# Altium schematic symbol library components.SchLib: 244 symbols (part 1 of 3)
Pins are listed as number, name and electrical type; pins without a type are passive.

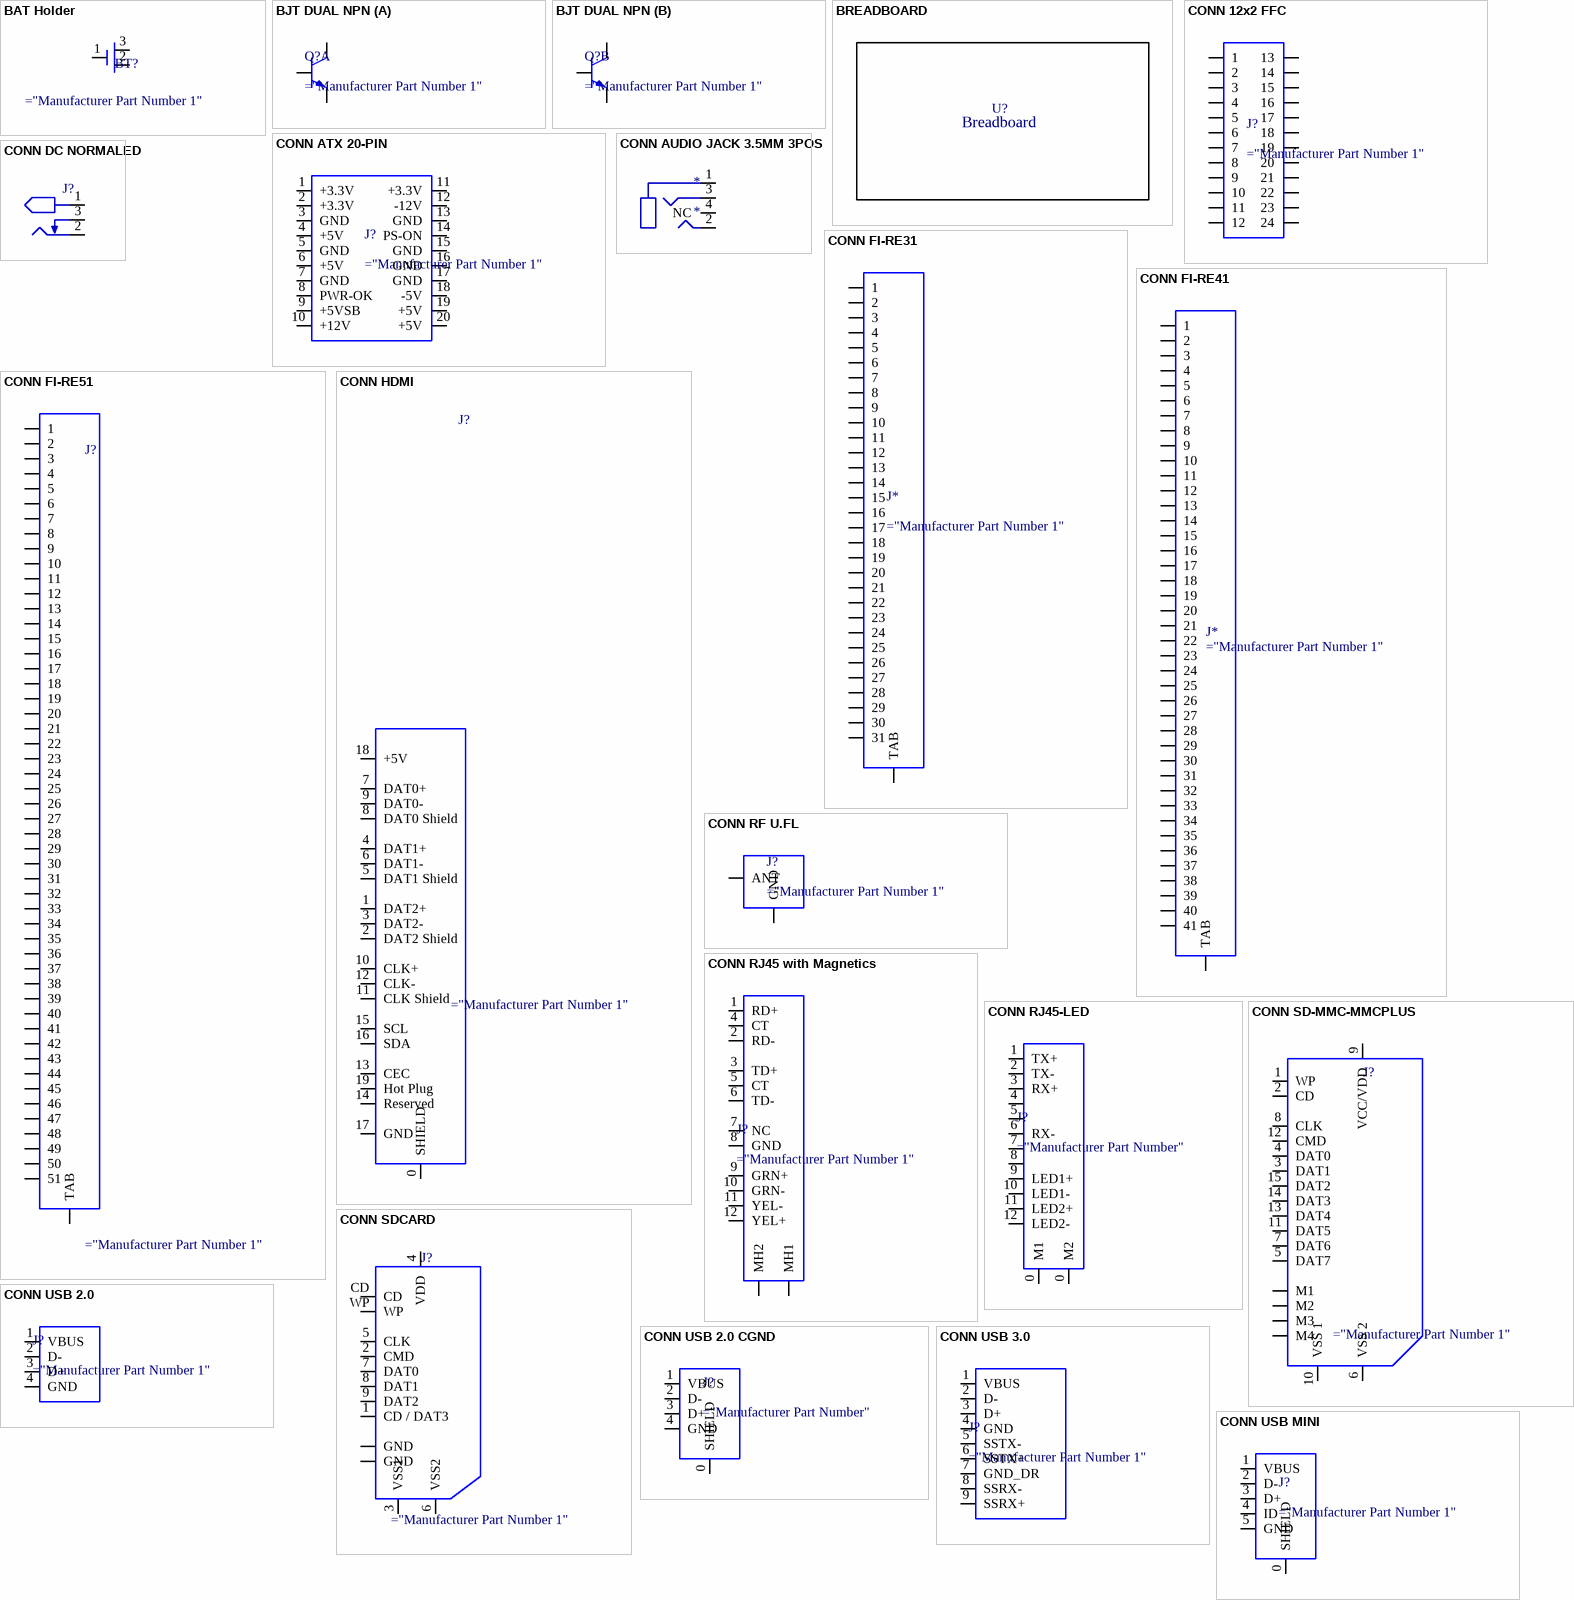
[diagram p0: symbols BAT Holder to CONN USB MINI]

## BAT Holder
designator BT?
20mm Coin Cell Battery Holder, LINX BAT-HLD-001
pins: 1 -, 2 +, 3 +

## BJT DUAL NPN
designator Q?
Dual NPN
part A pins: 3 C1, 4 E1, 5 B1
part B pins: 1 E2, 2 B2, 6 C2

## BREADBOARD
designator U?
6x6 2.54mm Breadboard
pins: 0 hidden
text: Breadboard

## CONN 12x2 FFC
designator J?
12x2 FFC Connector
pins: 1, 2, 3, 4, 5, 6, 7, 8, 9, 10, 11, 12, 13, 14, 15, 16, 17, 18, 19, 20, 21, 22, 23, 24

## CONN ATX 20-PIN
designator J?
ATX 20-Pin Connector, Board-Side
pins: 1 +3.3V (power), 2 +3.3V (power), 3 GND (power), 4 +5V (power), 5 GND (power), 6 +5V (power), 7 GND (power), 8 PWR-OK, 9 +5VSB (power), 10 +12V (power), 11 +3.3V (power), 12 -12V (power), 13 GND (power), 14 PS-ON, 15 GND (power), 16 GND (power), 17 GND (power), 18 -5V (power), 19 +5V (power), 20 +5V (power)
1 alternate drawing of the same symbol

## CONN AUDIO JACK 3.5MM 3POS
designator *
Female Socket, 3 Pos, Black Housing
pins: 1 Sleeve, 2 Tip, 3 Ring, 4 NC

## CONN DC NORMALED
designator J?
DC Barrel Jack, normaled
pins: 1, 2, 3

## CONN FI-RE31
designator J*
JAE FI-R 31pin FFC Connector
pins: 0 TAB, 1, 2, 3, 4, 5, 6, 7, 8, 9, 10, 11, 12, 13, 14, 15, 16, 17, 18, 19, 20, 21, 22, 23, 24, 25, 26, 27, 28, 29, 30, 31

## CONN FI-RE41
designator J*
JAE FI-R 41pin FFC Connector
pins: 0 TAB, 1, 2, 3, 4, 5, 6, 7, 8, 9, 10, 11, 12, 13, 14, 15, 16, 17, 18, 19, 20, 21, 22, 23, 24, 25, 26, 27, 28, 29, 30, 31, 32, 33, 34, 35, 36, 37, 38, 39, 40, 41

## CONN FI-RE51
designator J?
JAE FI-R 51pin FFC Connector
pins: 0 TAB, 1, 2, 3, 4, 5, 6, 7, 8, 9, 10, 11, 12, 13, 14, 15, 16, 17, 18, 19, 20, 21, 22, 23, 24, 25, 26, 27, 28, 29, 30, 31, 32, 33, 34, 35, 36, 37, 38, 39, 40, 41, 42, 43, 44, 45, 46, 47, 48, 49, 50, 51

## CONN HDMI
designator J?
HDMI Connector
pins: 0 SHIELD, 1 DAT2+, 2 DAT2 Shield, 3 DAT2-, 4 DAT1+, 5 DAT1 Shield, 6 DAT1-, 7 DAT0+, 8 DAT0 Shield, 9 DAT0-, 10 CLK+, 11 CLK Shield, 12 CLK-, 13 CEC, 14 Reserved, 15 SCL, 16 SDA, 17 GND, 18 +5V, 19 Hot Plug
1 alternate drawing of the same symbol

## CONN RF U.FL
designator J?
RF U.FL/IPEX Connector
pins: 0 GND, 1 ANT
1 alternate drawing of the same symbol

## CONN RJ45 with Magnetics
designator J?
RJ45 with Integrated magnetics and 2 LEDs (Abracon ARJC02-111009D)
pins: 1 RD+, 2 RD-, 3 TD+, 4 CT, 5 CT, 6 TD-, 7 NC, 8 GND, 9 GRN+, 10 GRN-, 11 YEL-, 12 YEL+, MH1, MH2

## CONN RJ45-LED
designator J?
RJ45 With integrated LEDs
pins: 0 M1, 0 M2, 1 TX+, 2 TX-, 3 RX+, 4, 5, 6 RX-, 7, 8, 9 LED1+, 10 LED1-, 11 LED2+, 12 LED2-

## CONN SD-MMC-MMCPLUS
designator J?
SD/MMC/MMCPlus Card Socket (8-bit)
pins: 0 M1, 0 M2, 0 M3, 0 M4, 1 WP, 2 CD, 3 DAT1 (power), 4 DAT0 (power), 5 DAT7, 6 VSS 2 (power), 7 DAT6, 8 CLK, 9 VCC/VDD, 10 VSS 1, 11 DAT5, 12 CMD, 13 DAT4, 14 DAT3, 15 DAT2

## CONN SDCARD
designator J?
SD Card Socket
pins: 0 GND, 0 GND, 1 CD / DAT3, 2 CMD, 3 VSS1 (power), 4 VDD (power), 5 CLK, 6 VSS2 (power), 7 DAT0, 8 DAT1, 9 DAT2, CD, WP

## CONN USB 2.0
designator J?
Generic USB 1.1/2.0 Port
pins: 1 VBUS, 2 D-, 3 D+, 4 GND

## CONN USB 2.0 CGND
designator J?
Generic USB 1.1/2.0 Port with Chassis Ground
pins: 0 SHIELD, 1 VBUS, 2 D-, 3 D+, 4 GND

## CONN USB 3.0
designator J?
Generic USB 3.0 Port
pins: 1 VBUS, 2 D-, 3 D+, 4 GND, 5 SSTX-, 6 SSTX+, 7 GND_DR, 8 SSRX-, 9 SSRX+

## CONN USB MINI
designator J?
USB Mini-AB Connect w/Hidden Mount Pins
pins: 0 SHIELD, 1 VBUS, 2 D-, 3 D+, 4 ID, 5 GND

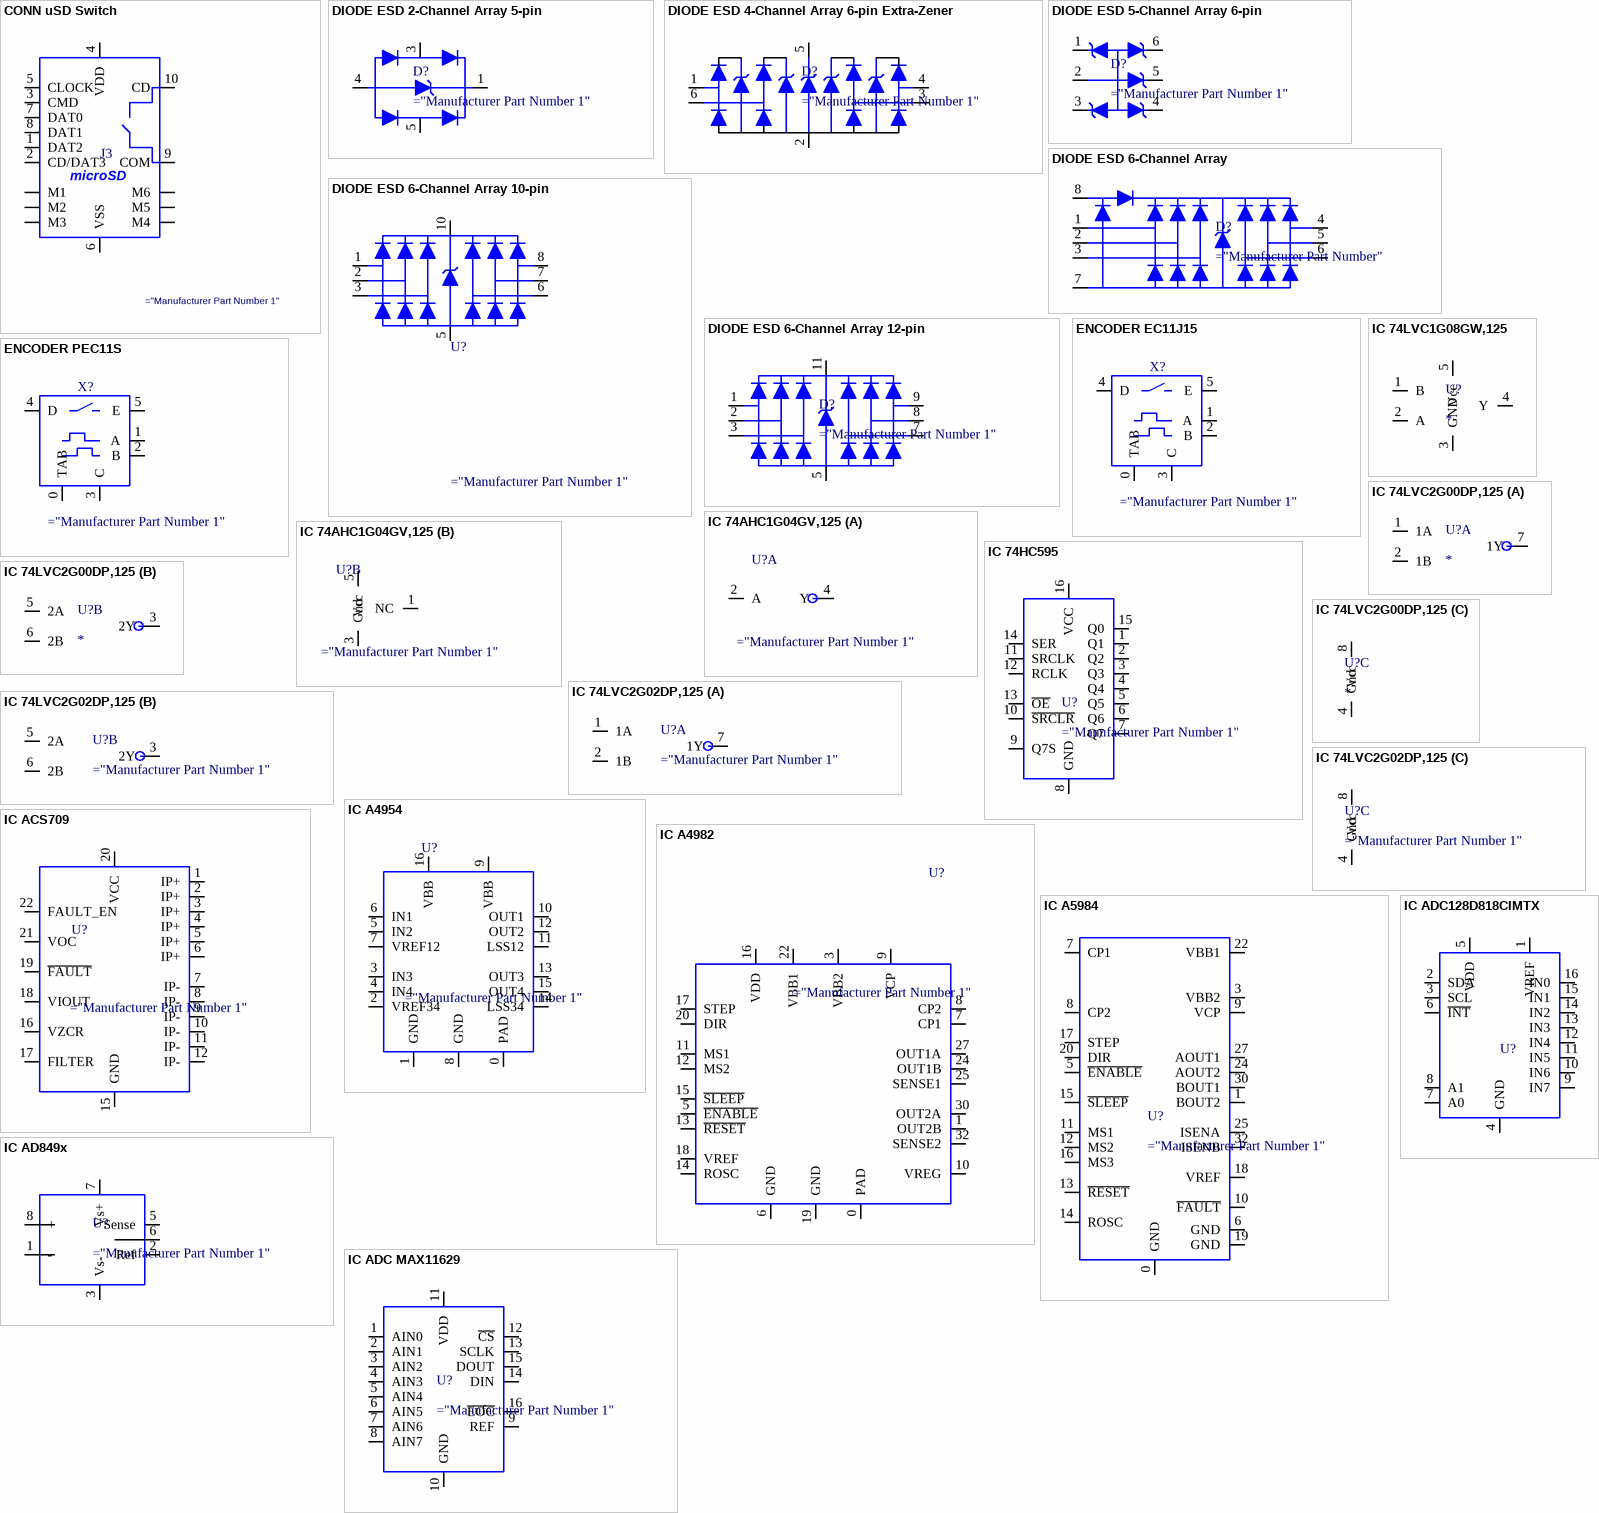
[diagram p1: symbols CONN uSD Switch to IC ADC MAX11629]

## CONN uSD Switch
designator J3
Reverse Mount uSD Card Holder w/CD Switch
footprint SD-MICRO-SCHA5B0300
pins: 1 DAT2, 2 CD/DAT3, 3 CMD, 4 VDD (power), 5 CLOCK, 6 VSS (power), 7 DAT0, 8 DAT1, 9 COM (power), 10 CD, 11 M1 (power), 12 M2 (power), 13 M3 (power), 14 M6 (power), 15 M5 (power), 16 M4 (power)
text: microSD

## DIODE ESD 2-Channel Array 5-pin
designator D?
Diode ESD Protection Array, TI TPD2E001DRLRG4
pins: 1 Vcc, 2 NC hidden, 3 IO1, 4 GND, 5 IO2

## DIODE ESD 4-Channel Array 6-pin Extra-Zener
designator D?
Diode ESD Array 6-pins, Extra Zener, ON Semi NUP4114
pins: 1 IO1, 2 GND, 3 IO3, 4 IO4, 5 VCC, 6 IO2

## DIODE ESD 5-Channel Array 6-pin
designator D?
Diode ESD Array with 6 pins, ON Semi SMF05CT1G
pins: 1 C, 2 A, 3 C, 4 C, 5 C, 6 C

## DIODE ESD 6-Channel Array
designator D?
Diode ESD Array 8-pins, 6-Channel, Murata LXES4XBAA6-027
pins: 1 IO1, 2 IO2, 3 IO3, 4 IO4, 5 IO5, 6 IO6, 7 GND, 8 VCC

## DIODE ESD 6-Channel Array 10-pin
designator U?
Diode ESD Array 6-CH, TI TPD6E001RSER
pins: 1 IO1, 2 IO2, 3 IO3, 4 NC hidden, 5 GND, 6 IO4, 7 IO5, 8 IO6, 9 NC hidden, 10 Vcc

## DIODE ESD 6-Channel Array 12-pin
designator D?
Diode ESD Array 12-pins, TI TPD6E001RSFR
pins: 0 PAD hidden to GND, 1 IO1, 2 IO2, 3 IO3, 4 N.C. hidden, 5 GND, 6 N.C hidden, 7 IO4, 8 IO5, 9 IO6, 10 N.C. hidden, 11 Vcc, 12 N.C. hidden

## ENCODER EC11J15
designator X?
Rotational Encoder with Switch, Alps EC11J15
pins: 0 TAB, 1 A, 2 B, 3 C, 4 D, 5 E

## ENCODER PEC11S
designator X?
Rotational Encoder with Switch, Bourns PEC11S Series
pins: 0 TAB, 1 A, 2 B, 3 C, 4 D, 5 E

## IC 74AHC1G04GV,125
designator U?
Single Inverter, NXP 74AHC1G04GV,125
part A pins: 2 A, 4 Y
part B pins: 1 NC, 3 Gnd, 5 Vcc

## IC 74HC595
designator U?
8-Bit Shift-and-Store Register, 74HC595
pins: 1 Q1, 2 Q2, 3 Q3, 4 Q4, 5 Q5, 6 Q6, 7 Q7, 8 GND (power), 9 Q7S, 10 ~{SRCLR}, 11 SRCLK, 12 RCLK, 13 ~{OE}, 14 SER, 15 Q0, 16 VCC (power)

## IC 74LVC1G08GW,125
designator U?
Single AND Gate, NXP 74LVC1G08GW,125
pins: 1 B, 2 A, 3 GND, 4 Y, 5 Vcc

## IC 74LVC2G00DP,125
designator U?
Dual NAND Gate, 74LVC2G00DP,125
part A pins: 1 1A, 2 1B, 7 1Y
part B pins: 3 2Y, 5 2A, 6 2B
part C pins: 4 Gnd, 8 Vcc

## IC 74LVC2G02DP,125
designator U?
Dual NOR Gate, 74LVC2G02DP,125
part A pins: 1 1A, 2 1B, 7 1Y
part B pins: 3 2Y, 5 2A, 6 2B
part C pins: 4 Gnd, 8 Vcc

## IC A4954
designator U?
Dual H-Bridge Motor Driver, Allegro A4954
pins: 0 PAD, 1 GND, 2 VREF34, 3 IN3, 4 IN4, 5 IN2, 6 IN1, 7 VREF12, 8 GND, 9 VBB, 10 OUT1, 11 LSS12, 12 OUT2, 13 OUT3, 14 LSS34, 15 OUT4, 16 VBB

## IC A4982
designator U?
Stepper Motor Controller, Allegro A4982
pins: 0 PAD, 1 OUT2B, 3 VBB2, 5 ~{ENABLE}, 6 GND, 7 CP1, 8 CP2, 9 VCP, 10 VREG, 11 MS1, 12 MS2, 13 ~{RESET}, 14 ROSC, 15 ~{SLEEP}, 16 VDD, 17 STEP, 18 VREF, 19 GND, 20 DIR, 22 VBB1, 24 OUT1B, 25 SENSE1, 27 OUT1A, 30 OUT2A, 32 SENSE2

## IC A5984
designator U?
Dual Full-Bridge PWM Motor Driver, Allegro A5984
pins: 0 GND, 1 BOUT2, 2 NC hidden, 3 VBB2, 4 NC hidden, 5 ~{ENABLE}, 6 GND, 7 CP1, 8 CP2, 9 VCP, 10 ~{FAULT}, 11 MS1, 12 MS2, 13 ~{RESET}, 14 ROSC, 15 ~{SLEEP}, 16 MS3, 17 STEP, 18 VREF, 19 GND, 20 DIR, 21 NC hidden, 22 VBB1, 23 NC (power) hidden, 24 AOUT2, 25 ISENA, 26 NC (power) hidden, 27 AOUT1, 28 NC (power) hidden, 29 NC (power) hidden, 30 BOUT1, 31 NC (power) hidden, 32 ISENB

## IC ACS709
designator U?
Hall Current Sensor, Allegro ACS709
pins: 1 IP+, 2 IP+, 3 IP+, 4 IP+, 5 IP+, 6 IP+, 7 IP-, 8 IP-, 9 IP-, 10 IP-, 11 IP-, 12 IP-, 13 NC hidden, 14 NC hidden, 15 GND, 16 VZCR, 17 FILTER, 18 VIOUT, 19 ~{FAULT}, 20 VCC, 21 VOC, 22 FAULT_EN, 23 NC hidden, 24 NC hidden

## IC AD849x
designator U?
Thermocouple Amplifier
pins: 1 -, 2 Ref, 3 Vs-, 4 NC hidden, 5 Sense, 6 O, 7 Vs+, 8 +

## IC ADC128D818CIMTX
designator U?
12 Bit ADC I2C 8 Input 1 Sigma-Delta 16-TSSOP, Pseudo-Differential and/or Single Ended
pins: 1 VREF, 2 SDA, 3 SCL, 4 GND, 5 VDD, 6 ~{INT}, 7 A0, 8 A1, 9 IN7, 10 IN6, 11 IN5, 12 IN4, 13 IN3, 14 IN2, 15 IN1, 16 IN0

## IC ADC MAX11629
designator U?
ADC, 12-Bit, 8-Channel, Maxim MAX11629
pins: 1 AIN0, 2 AIN1, 3 AIN2, 4 AIN3, 5 AIN4, 6 AIN5, 7 AIN6, 8 AIN7, 9 REF, 10 GND, 11 VDD, 12 ~{CS}, 13 SCLK, 14 DIN, 15 DOUT, 16 ~{EOC}

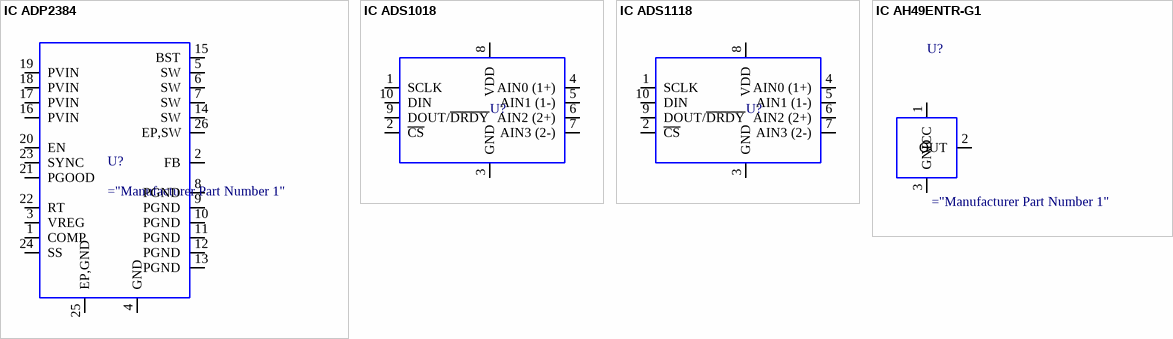
[diagram p2: symbols IC ADP2384 to IC AH49ENTR-G1]

## IC ADP2384
designator U?
Synchronous Buck Regulator, Analog Devices ADP2384
pins: 1 COMP, 2 FB, 3 VREG, 4 GND, 5 SW, 6 SW, 7 SW, 8 PGND, 9 PGND, 10 PGND, 11 PGND, 12 PGND, 13 PGND, 14 SW, 15 BST, 16 PVIN, 17 PVIN, 18 PVIN, 19 PVIN, 20 EN, 21 PGOOD, 22 RT, 23 SYNC, 24 SS, 25 EP,GND, 26 EP,SW

## IC ADS1018
designator U?
12-bit, 4-Input ADC SPI w/Temperature Sensor
pins: 1 SCLK, 2 ~{CS}, 3 GND, 4 AIN0 (1+), 5 AIN1 (1-), 6 AIN2 (2+), 7 AIN3 (2-), 8 VDD, 9 DOUT/~{DRDY}, 10 DIN

## IC ADS1118
designator U?
16-bit, 4-Input ADC SPI w/Temperature Sensor
pins: 1 SCLK, 2 ~{CS}, 3 GND, 4 AIN0 (1+), 5 AIN1 (1-), 6 AIN2 (2+), 7 AIN3 (2-), 8 VDD, 9 DOUT/~{DRDY}, 10 DIN

## IC AH49ENTR-G1
designator U?
Diodes Inc Linear Hall Effect Sensor AH49ENTR-G1
pins: 1 VCC (power), 2 OUT, 3 GND (power)

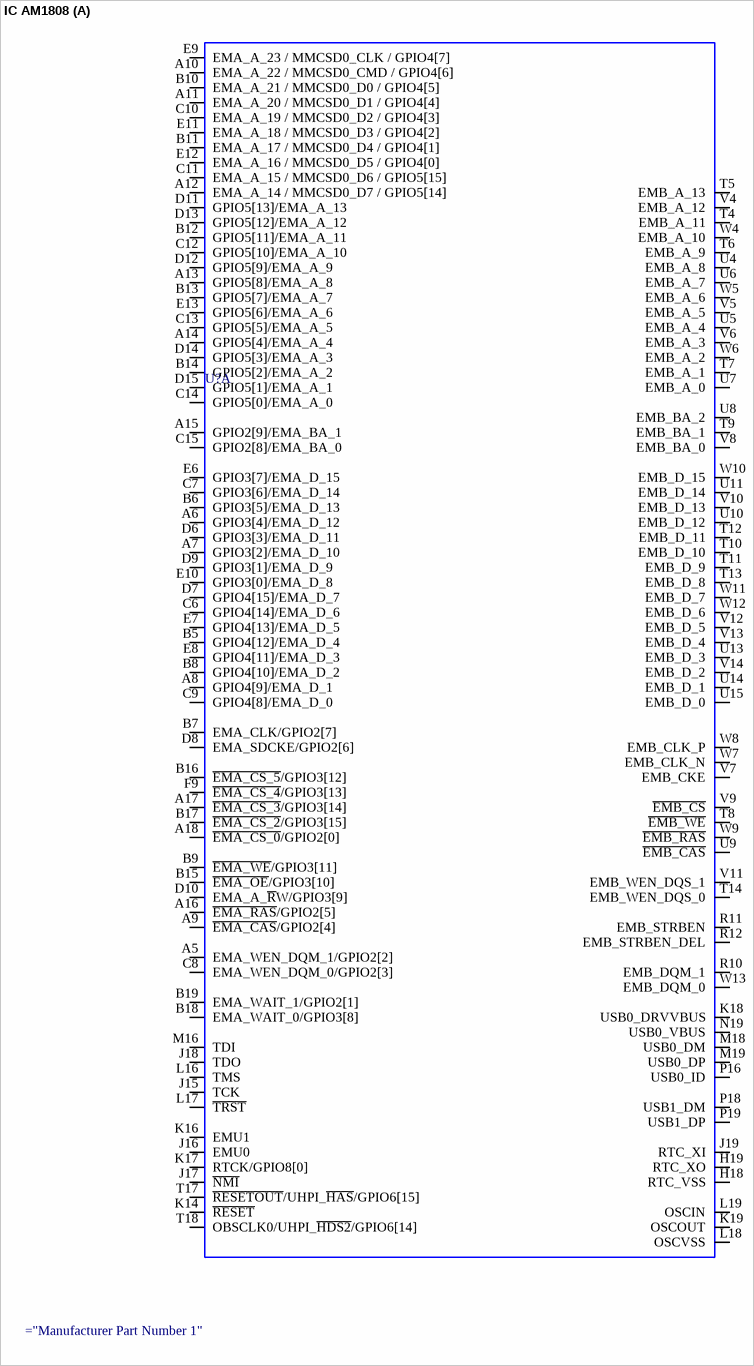
[diagram p3: symbol IC AM1808]

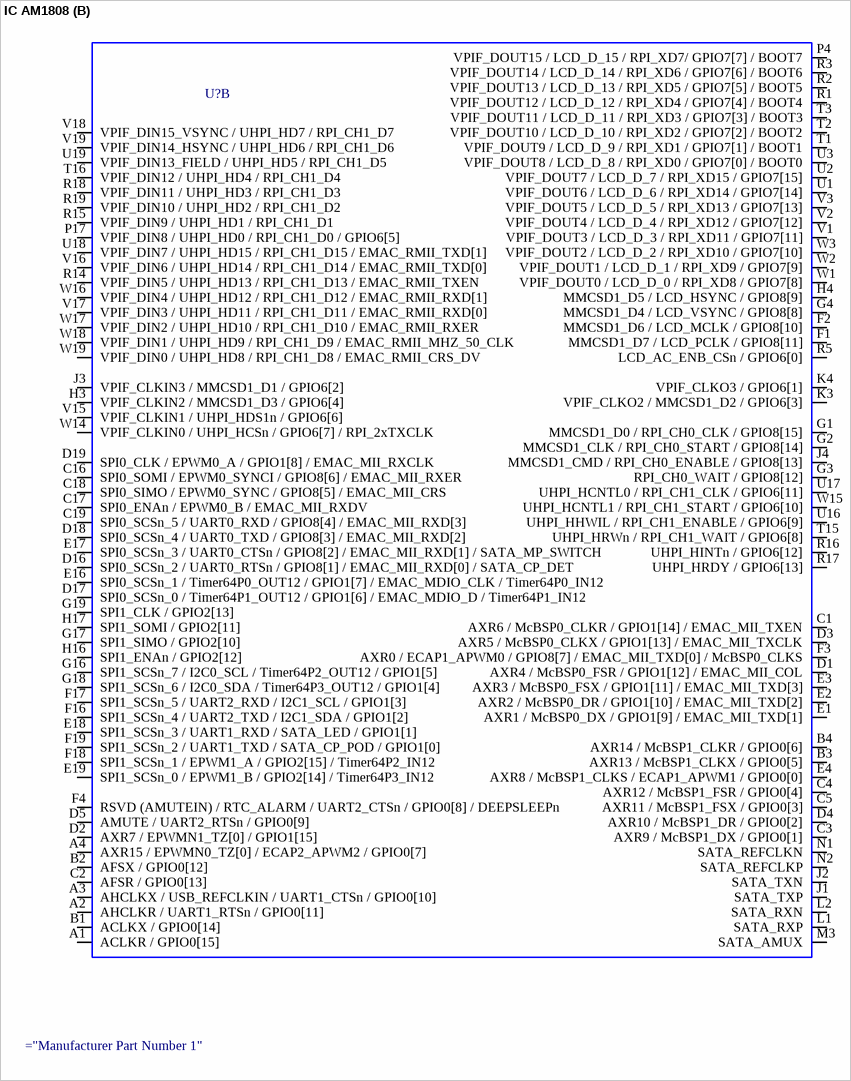
[diagram p4: symbol IC AM1808]

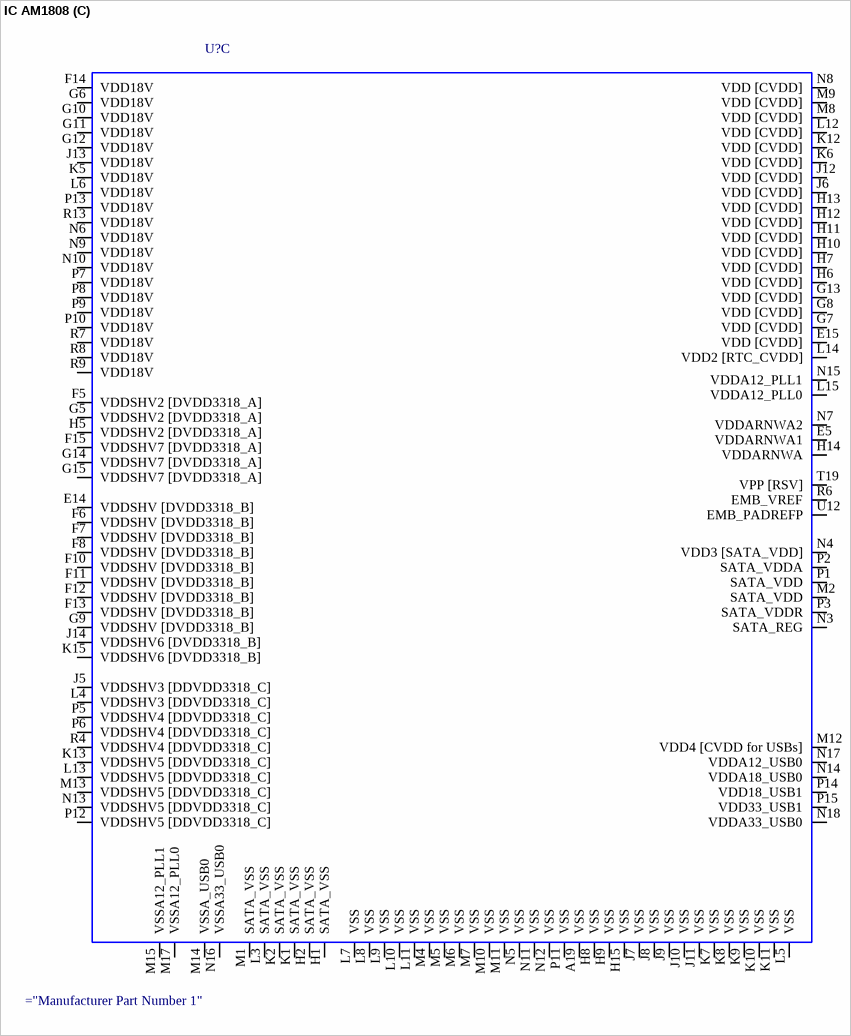
[diagram p5: symbol IC AM1808]

## IC AM1808
designator U?
MPU ARM A9, TI AM1808
part A pins: A5 EMA_WEN_DQM_1/GPIO2[2], A6 GPIO3[4]/EMA_D_12, A7 GPIO3[2]/EMA_D_10, A8 GPIO4[9]/EMA_D_1, A9 ~{EMA_CAS}/GPIO2[4], A10 EMA_A_22 / MMCSD0_CMD / GPIO4[6], A11 EMA_A_20 / MMCSD0_D1 / GPIO4[4], A12 EMA_A_14 / MMCSD0_D7 / GPIO5[14], A13 GPIO5[8]/EMA_A_8, A14 GPIO5[4]/EMA_A_4, A15 GPIO2[9]/EMA_BA_1, A16 ~{EMA_RAS}/GPIO2[5], A17 ~{EMA_CS_3}/GPIO3[14], A18 ~{EMA_CS_0}/GPIO2[0], B5 GPIO4[12]/EMA_D_4, B6 GPIO3[5]/EMA_D_13, B7 EMA_CLK/GPIO2[7], B8 GPIO4[10]/EMA_D_2, B9 ~{EMA_WE}/GPIO3[11], B10 EMA_A_21 / MMCSD0_D0 / GPIO4[5], B11 EMA_A_17 / MMCSD0_D4 / GPIO4[1], B12 GPIO5[11]/EMA_A_11, B13 GPIO5[7]/EMA_A_7, B14 GPIO5[2]/EMA_A_2, B15 ~{EMA_OE}/GPIO3[10], B16 ~{EMA_CS_5}/GPIO3[12], B17 ~{EMA_CS_2}/GPIO3[15], B18 EMA_WAIT_0/GPIO3[8], B19 EMA_WAIT_1/GPIO2[1], C6 GPIO4[14]/EMA_D_6, C7 GPIO3[6]/EMA_D_14, C8 EMA_WEN_DQM_0/GPIO2[3], C9 GPIO4[8]/EMA_D_0, C10 EMA_A_19 / MMCSD0_D2 / GPIO4[3], C11 EMA_A_15 / MMCSD0_D6 / GPIO5[15], C12 GPIO5[10]/EMA_A_10, C13 GPIO5[5]/EMA_A_5, C14 GPIO5[0]/EMA_A_0, C15 GPIO2[8]/EMA_BA_0, D6 GPIO3[3]/EMA_D_11, D7 GPIO4[15]/EMA_D_7, D8 EMA_SDCKE/GPIO2[6], D9 GPIO3[1]/EMA_D_9, D10 EMA_A_~{R}W/GPIO3[9], D11 GPIO5[13]/EMA_A_13, D12 GPIO5[9]/EMA_A_9, D13 GPIO5[12]/EMA_A_12, D14 GPIO5[3]/EMA_A_3, D15 GPIO5[1]/EMA_A_1, E6 GPIO3[7]/EMA_D_15, E7 GPIO4[13]/EMA_D_5, E8 GPIO4[11]/EMA_D_3, E9 EMA_A_23 / MMCSD0_CLK / GPIO4[7], E10 GPIO3[0]/EMA_D_8, E11 EMA_A_18 / MMCSD0_D3 / GPIO4[2], E12 EMA_A_16 / MMCSD0_D5 / GPIO4[0], E13 GPIO5[6]/EMA_A_6, F9 ~{EMA_CS_4}/GPIO3[13], H18 RTC_VSS, H19 RTC_XO, J15 TCK, J16 EMU0, J17 ~{NMI}, J18 TDO, J19 RTC_XI, K14 ~{RESET}, K16 EMU1, K17 RTCK/GPIO8[0], K18 USB0_DRVVBUS, K19 OSCOUT, L16 TMS, L17 ~{TRST}, L18 OSCVSS, L19 OSCIN, M16 TDI, M18 USB0_DM, M19 USB0_DP, N19 USB0_VBUS, P16 USB0_ID, P18 USB1_DM, P19 USB1_DP, R10 EMB_DQM_1, R11 EMB_STRBEN, R12 EMB_STRBEN_DEL, T4 EMB_A_11, T5 EMB_A_13, T6 EMB_A_9, T7 EMB_A_1, T8 ~{EMB_WE}, T9 EMB_BA_1, T10 EMB_D_10, T11 EMB_D_9, T12 EMB_D_11, T13 EMB_D_8, T14 EMB_WEN_DQS_0, T17 ~{RESETOUT}/UHPI_~{HAS}/GPIO6[15], T18 OBSCLK0/UHPI_~{HDS2}/GPIO6[14], U4 EMB_A_8, U5 EMB_A_4, U6 EMB_A_7, U7 EMB_A_0, U8 EMB_BA_2, U9 ~{EMB_CAS}, U10 EMB_D_12, U11 EMB_D_14, U13 EMB_D_3, U14 EMB_D_1, U15 EMB_D_0, V4 EMB_A_12, V5 EMB_A_5, V6 EMB_A_3, V7 EMB_CKE, V8 EMB_BA_0, V9 ~{EMB_CS}, V10 EMB_D_13, V11 EMB_WEN_DQS_1, V12 EMB_D_5, V13 EMB_D_4, V14 EMB_D_2, W4 EMB_A_10, W5 EMB_A_6, W6 EMB_A_2, W7 EMB_CLK_N, W8 EMB_CLK_P, W9 ~{EMB_RAS}, W10 EMB_D_15, W11 EMB_D_7, W12 EMB_D_6, W13 EMB_DQM_0
part B pins: A1 ACLKR / GPIO0[15], A2 AHCLKR / UART1_RTSn / GPIO0[11], A3 AHCLKX / USB_REFCLKIN / UART1_CTSn / GPIO0[10], A4 AXR15 / EPWMN0_TZ[0] / ECAP2_APWM2 / GPIO0[7], B1 ACLKX / GPIO0[14], B2 AFSX / GPIO0[12], B3 AXR13 / McBSP1_CLKX / GPIO0[5], B4 AXR14 / McBSP1_CLKR / GPIO0[6], C1 AXR6 / McBSP0_CLKR / GPIO1[14] / EMAC_MII_TXEN, C2 AFSR / GPIO0[13], C3 AXR9 / McBSP1_DX / GPIO0[1], C4 AXR12 / McBSP1_FSR / GPIO0[4], C5 AXR11 / McBSP1_FSX / GPIO0[3], C16 SPI0_SOMI / EPWM0_SYNCI / GPIO8[6] / EMAC_MII_RXER, C17 SPI0_ENAn / EPWM0_B / EMAC_MII_RXDV, C18 SPI0_SIMO / EPWM0_SYNC / GPIO8[5] / EMAC_MII_CRS, C19 SPI0_SCSn_5 / UART0_RXD / GPIO8[4] / EMAC_MII_RXD[3], D1 AXR4 / McBSP0_FSR / GPIO1[12] / EMAC_MII_COL, D2 AXR7 / EPWMN1_TZ[0] / GPIO1[15], D3 AXR5 / McBSP0_CLKX / GPIO1[13] / EMAC_MII_TXCLK, D4 AXR10 / McBSP1_DR / GPIO0[2], D5 AMUTE / UART2_RTSn / GPIO0[9], D16 SPI0_SCSn_2 / UART0_RTSn / GPIO8[1] / EMAC_MII_RXD[0] / SATA_CP_DET, D17 SPI0_SCSn_0 / Timer64P1_OUT12 / GPIO1[6] / EMAC_MDIO_D / Timer64P1_IN12, D18 SPI0_SCSn_4 / UART0_TXD / GPIO8[3] / EMAC_MII_RXD[2], D19 SPI0_CLK / EPWM0_A / GPIO1[8] / EMAC_MII_RXCLK, E1 AXR1 / McBSP0_DX / GPIO1[9] / EMAC_MII_TXD[1], E2 AXR2 / McBSP0_DR / GPIO1[10] / EMAC_MII_TXD[2], E3 AXR3 / McBSP0_FSX / GPIO1[11] / EMAC_MII_TXD[3], E4 AXR8 / McBSP1_CLKS / ECAP1_APWM1 / GPIO0[0], E16 SPI0_SCSn_1 / Timer64P0_OUT12 / GPIO1[7] / EMAC_MDIO_CLK / Timer64P0_IN12, E17 SPI0_SCSn_3 / UART0_CTSn / GPIO8[2] / EMAC_MII_RXD[1] / SATA_MP_SWITCH, E18 SPI1_SCSn_3 / UART1_RXD / SATA_LED / GPIO1[1], E19 SPI1_SCSn_0 / EPWM1_B / GPIO2[14] / Timer64P3_IN12, F1 MMCSD1_D7 / LCD_PCLK / GPIO8[11], F2 MMCSD1_D6 / LCD_MCLK / GPIO8[10], F3 AXR0 / ECAP1_APWM0 / GPIO8[7] / EMAC_MII_TXD[0] / McBSP0_CLKS, F4 RSVD (AMUTEIN) / RTC_ALARM / UART2_CTSn / GPIO0[8] / DEEPSLEEPn, F16 SPI1_SCSn_4 / UART2_TXD / I2C1_SDA / GPIO1[2], F17 SPI1_SCSn_5 / UART2_RXD / I2C1_SCL / GPIO1[3], F18 SPI1_SCSn_1 / EPWM1_A / GPIO2[15] / Timer64P2_IN12, F19 SPI1_SCSn_2 / UART1_TXD / SATA_CP_POD / GPIO1[0], G1 MMCSD1_D0 / RPI_CH0_CLK / GPIO8[15], G2 MMCSD1_CLK / RPI_CH0_START / GPIO8[14], G3 RPI_CH0_WAIT / GPIO8[12], G4 MMCSD1_D4 / LCD_VSYNC / GPIO8[8], G16 SPI1_SCSn_7 / I2C0_SCL / Timer64P2_OUT12 / GPIO1[5], G17 SPI1_SIMO / GPIO2[10], G18 SPI1_SCSn_6 / I2C0_SDA / Timer64P3_OUT12 / GPIO1[4], G19 SPI1_CLK / GPIO2[13], H3 VPIF_CLKIN2 / MMCSD1_D3 / GPIO6[4], H4 MMCSD1_D5 / LCD_HSYNC / GPIO8[9], H16 SPI1_ENAn / GPIO2[12], H17 SPI1_SOMI / GPIO2[11], J1 SATA_TXP, J2 SATA_TXN, J3 VPIF_CLKIN3 / MMCSD1_D1 / GPIO6[2], J4 MMCSD1_CMD / RPI_CH0_ENABLE / GPIO8[13], K3 VPIF_CLKO2 / MMCSD1_D2 / GPIO6[3], K4 VPIF_CLKO3 / GPIO6[1], L1 SATA_RXP, L2 SATA_RXN, M3 SATA_AMUX, N1 SATA_REFCLKN, N2 SATA_REFCLKP, P4 VPIF_DOUT15 / LCD_D_15 / RPI_XD7/ GPIO7[7] / BOOT7, P17 VPIF_DIN8 / UHPI_HD0 / RPI_CH1_D0 / GPIO6[5], R1 VPIF_DOUT12 / LCD_D_12 / RPI_XD4 / GPIO7[4] / BOOT4, R2 VPIF_DOUT13 / LCD_D_13 / RPI_XD5 / GPIO7[5] / BOOT5, R3 VPIF_DOUT14 / LCD_D_14 / RPI_XD6 / GPIO7[6] / BOOT6, R5 LCD_AC_ENB_CSn / GPIO6[0], R14 VPIF_DIN5 / UHPI_HD13 / RPI_CH1_D13 / EMAC_RMII_TXEN, R15 VPIF_DIN9 / UHPI_HD1 / RPI_CH1_D1, R16 UHPI_HINTn / GPIO6[12], R17 UHPI_HRDY / GPIO6[13], R18 VPIF_DIN11 / UHPI_HD3 / RPI_CH1_D3, R19 VPIF_DIN10 / UHPI_HD2 / RPI_CH1_D2, T1 VPIF_DOUT9 / LCD_D_9 / RPI_XD1 / GPIO7[1] / BOOT1, T2 VPIF_DOUT10 / LCD_D_10 / RPI_XD2 / GPIO7[2] / BOOT2, T3 VPIF_DOUT11 / LCD_D_11 / RPI_XD3 / GPIO7[3] / BOOT3, T15 UHPI_HRWn / RPI_CH1_WAIT / GPIO6[8], T16 VPIF_DIN12 / UHPI_HD4 / RPI_CH1_D4, U1 VPIF_DOUT6 / LCD_D_6 / RPI_XD14 / GPIO7[14], U2 VPIF_DOUT7 / LCD_D_7 / RPI_XD15 / GPIO7[15], U3 VPIF_DOUT8 / LCD_D_8 / RPI_XD0 / GPIO7[0] / BOOT0, U16 UHPI_HHWIL / RPI_CH1_ENABLE / GPIO6[9], U17 UHPI_HCNTL0 / RPI_CH1_CLK / GPIO6[11], U18 VPIF_DIN7 / UHPI_HD15 / RPI_CH1_D15 / EMAC_RMII_TXD[1], U19 VPIF_DIN13_FIELD / UHPI_HD5 / RPI_CH1_D5, V1 VPIF_DOUT3 / LCD_D_3 / RPI_XD11 / GPIO7[11], V2 VPIF_DOUT4 / LCD_D_4 / RPI_XD12 / GPIO7[12], V3 VPIF_DOUT5 / LCD_D_5 / RPI_XD13 / GPIO7[13], V15 VPIF_CLKIN1 / UHPI_HDS1n / GPIO6[6], V16 VPIF_DIN6 / UHPI_HD14 / RPI_CH1_D14 / EMAC_RMII_TXD[0], V17 VPIF_DIN3 / UHPI_HD11 / RPI_CH1_D11 / EMAC_RMII_RXD[0], V18 VPIF_DIN15_VSYNC / UHPI_HD7 / RPI_CH1_D7, V19 VPIF_DIN14_HSYNC / UHPI_HD6 / RPI_CH1_D6, W1 VPIF_DOUT0 / LCD_D_0 / RPI_XD8 / GPIO7[8], W2 VPIF_DOUT1 / LCD_D_1 / RPI_XD9 / GPIO7[9], W3 VPIF_DOUT2 / LCD_D_2 / RPI_XD10 / GPIO7[10], W14 VPIF_CLKIN0 / UHPI_HCSn / GPIO6[7] / RPI_2xTXCLK, W15 UHPI_HCNTL1 / RPI_CH1_START / GPIO6[10], W16 VPIF_DIN4 / UHPI_HD12 / RPI_CH1_D12 / EMAC_RMII_RXD[1], W17 VPIF_DIN2 / UHPI_HD10 / RPI_CH1_D10 / EMAC_RMII_RXER, W18 VPIF_DIN1 / UHPI_HD9 / RPI_CH1_D9 / EMAC_RMII_MHZ_50_CLK, W19 VPIF_DIN0 / UHPI_HD8 / RPI_CH1_D8 / EMAC_RMII_CRS_DV
part C pins: A19 VSS, E5 VDDARNWA1, E14 VDDSHV [DVDD3318_B], E15 VDD [CVDD], F5 VDDSHV2 [DVDD3318_A], F6 VDDSHV [DVDD3318_B], F7 VDDSHV [DVDD3318_B], F8 VDDSHV [DVDD3318_B], F10 VDDSHV [DVDD3318_B], F11 VDDSHV [DVDD3318_B], F12 VDDSHV [DVDD3318_B], F13 VDDSHV [DVDD3318_B], F14 VDD18V, F15 VDDSHV7 [DVDD3318_A], G5 VDDSHV2 [DVDD3318_A], G6 VDD18V, G7 VDD [CVDD], G8 VDD [CVDD], G9 VDDSHV [DVDD3318_B], G10 VDD18V, G11 VDD18V, G12 VDD18V, G13 VDD [CVDD], G14 VDDSHV7 [DVDD3318_A], G15 VDDSHV7 [DVDD3318_A], H1 SATA_VSS, H2 SATA_VSS, H5 VDDSHV2 [DVDD3318_A], H6 VDD [CVDD], H7 VDD [CVDD], H8 VSS, H9 VSS, H10 VDD [CVDD], H11 VDD [CVDD], H12 VDD [CVDD], H13 VDD [CVDD], H14 VDDARNWA, H15 VSS, J5 VDDSHV3 [DDVDD3318_C], J6 VDD [CVDD], J7 VSS, J8 VSS, J9 VSS, J10 VSS, J11 VSS, J12 VDD [CVDD], J13 VDD18V, J14 VDDSHV6 [DVDD3318_B], K1 SATA_VSS, K2 SATA_VSS, K5 VDD18V, K6 VDD [CVDD], K7 VSS, K8 VSS, K9 VSS, K10 VSS, K11 VSS, K12 VDD [CVDD], K13 VDDSHV5 [DDVDD3318_C], K15 VDDSHV6 [DVDD3318_B], L3 SATA_VSS, L4 VDDSHV3 [DDVDD3318_C], L5 VSS, L6 VDD18V, L7 VSS, L8 VSS, L9 VSS, L10 VSS, L11 VSS, L12 VDD [CVDD], L13 VDDSHV5 [DDVDD3318_C], L14 VDD2 [RTC_CVDD], L15 VDDA12_PLL0, M1 SATA_VSS, M2 SATA_VDD, M4 VSS, M5 VSS, M6 VSS, M7 VSS, M8 VDD [CVDD], M9 VDD [CVDD], M10 VSS, M11 VSS, M12 VDD4 [CVDD for USBs], M13 VDDSHV5 [DDVDD3318_C], M14 VSSA_USB0, M15 VSSA12_PLL1, M17 VSSA12_PLL0, N3 SATA_REG, N4 VDD3 [SATA_VDD], N5 VSS, N6 VDD18V, N7 VDDARNWA2, N8 VDD [CVDD], N9 VDD18V, N10 VDD18V, N11 VSS, N12 VSS, N13 VDDSHV5 [DDVDD3318_C], N14 VDDA18_USB0, N15 VDDA12_PLL1, N16 VSSA33_USB0, N17 VDDA12_USB0, N18 VDDA33_USB0, P1 SATA_VDD, P2 SATA_VDDA, P3 SATA_VDDR, P5 VDDSHV4 [DDVDD3318_C], P6 VDDSHV4 [DDVDD3318_C], P7 VDD18V, P8 VDD18V, P9 VDD18V, P10 VDD18V, P11 VSS, P12 VDDSHV5 [DDVDD3318_C], P13 VDD18V, P14 VDD18_USB1, P15 VDD33_USB1, R4 VDDSHV4 [DDVDD3318_C], R6 EMB_VREF, R7 VDD18V, R8 VDD18V, R9 VDD18V, R13 VDD18V, T19 VPP [RSV], U12 EMB_PADREFP

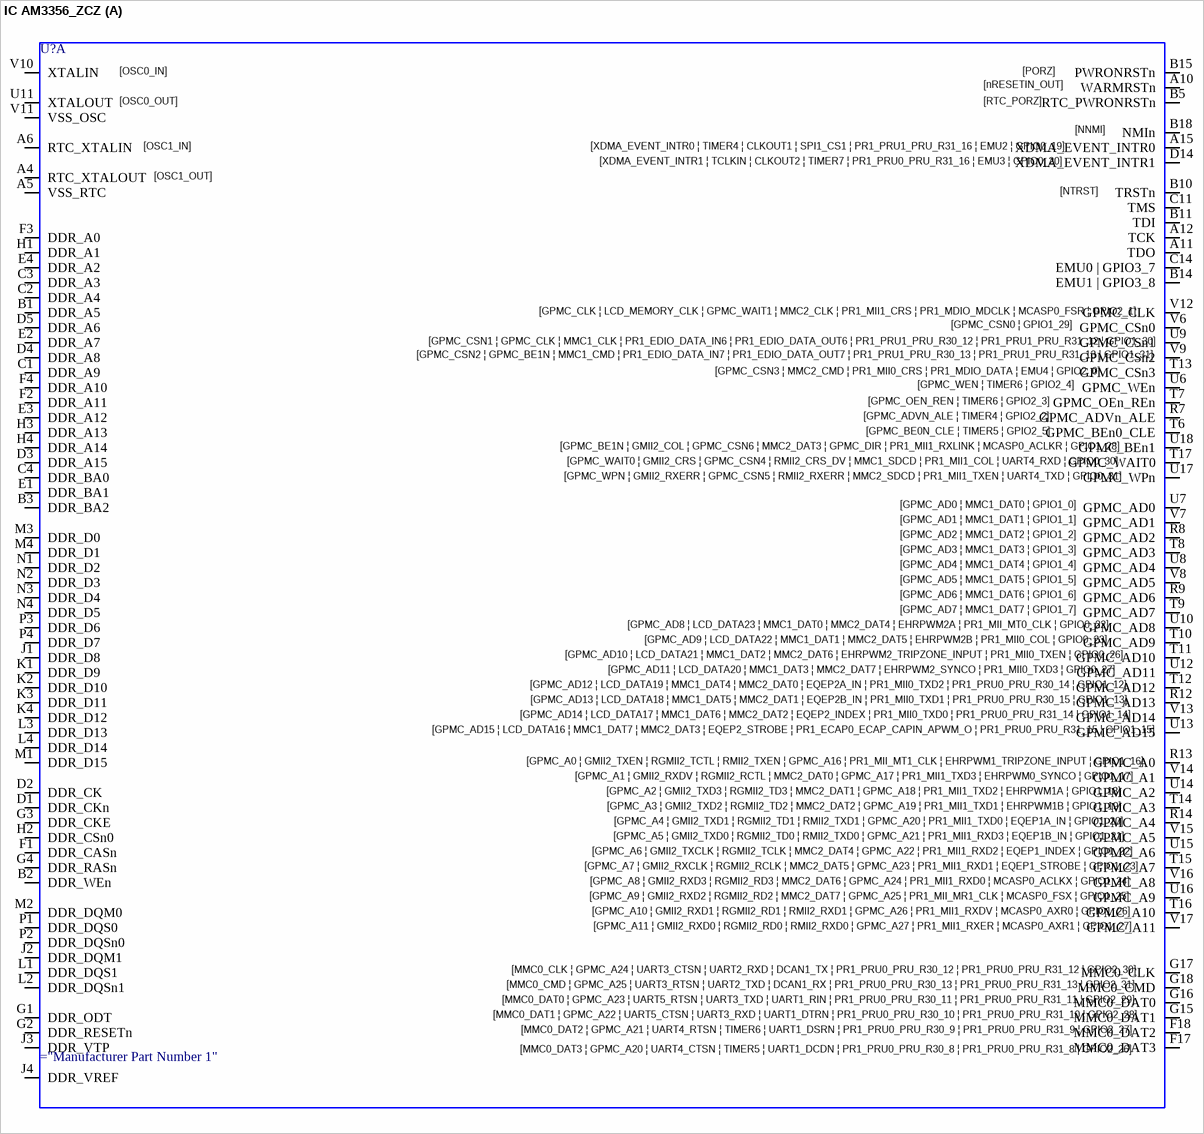
[diagram p6: symbol IC AM3356_ZCZ]

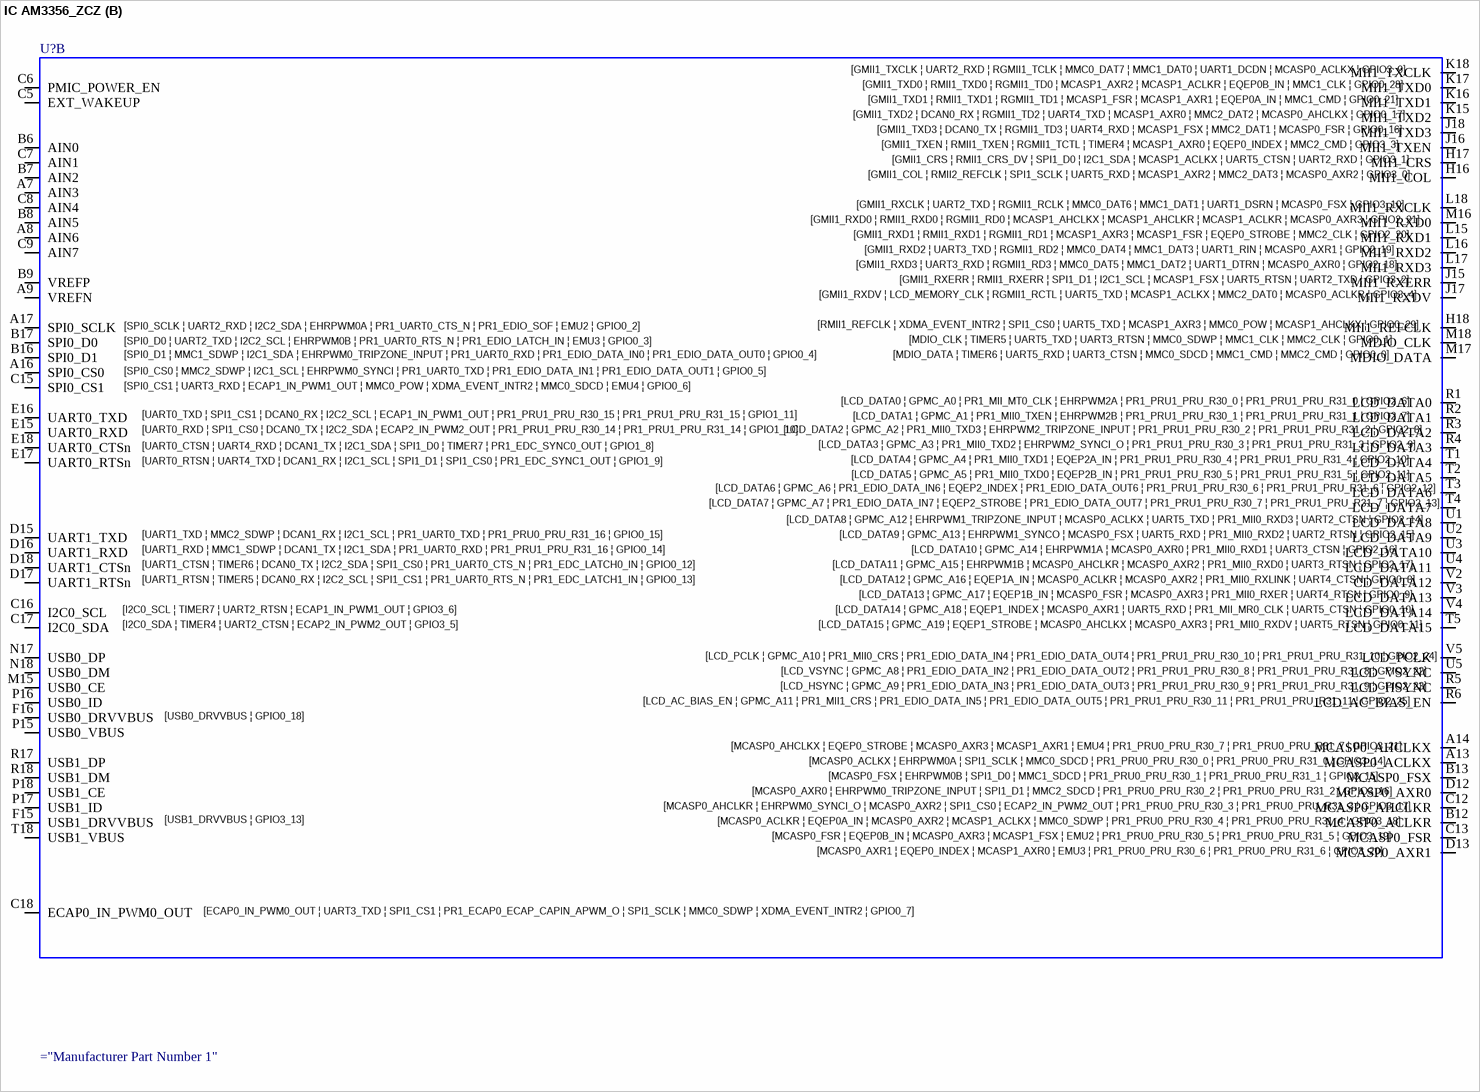
[diagram p7: symbol IC AM3356_ZCZ]

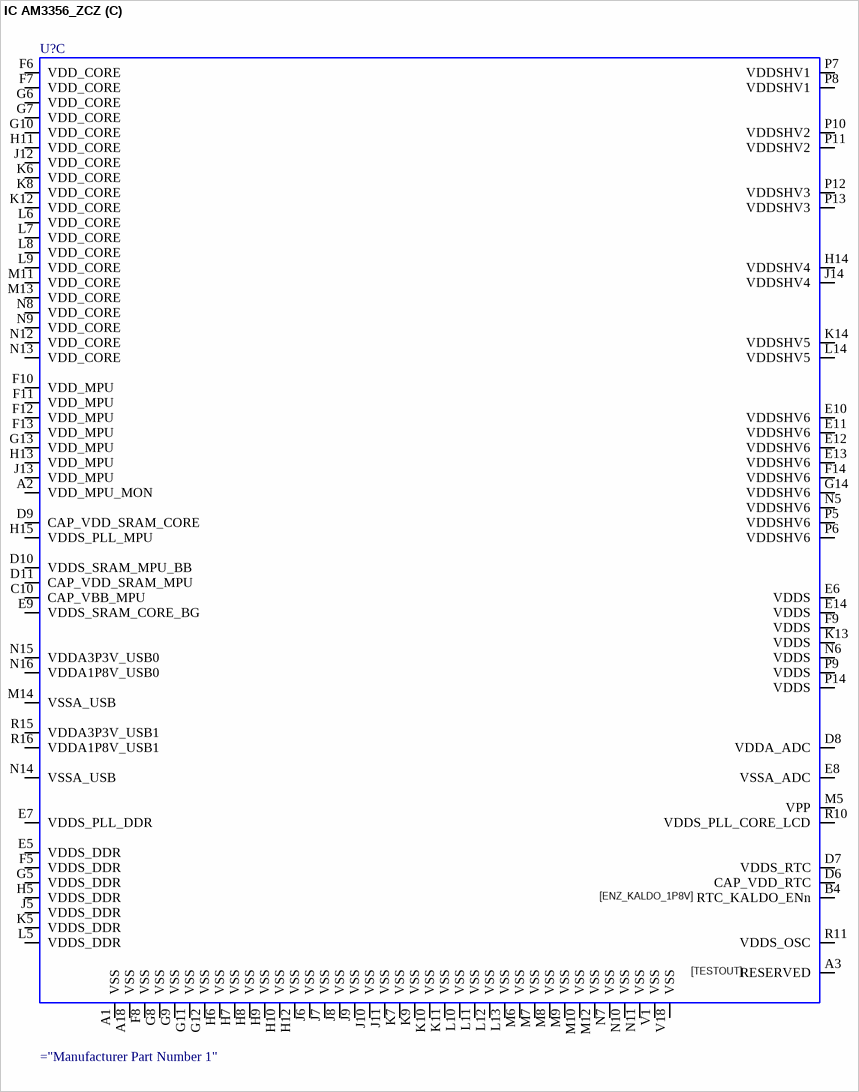
[diagram p8: symbol IC AM3356_ZCZ]

## IC AM3356_ZCZ
designator U?
MPU ARM Cortex-A8, TI AM3356
part A pins: A4 RTC_XTALOUT, A5 VSS_RTC, A6 RTC_XTALIN, A10 WARMRSTn, A11 TDO, A12 TCK, A15 XDMA_EVENT_INTR0, B1 DDR_A5, B2 DDR_WEn, B3 DDR_BA2, B5 RTC_PWRONRSTn, B10 TRSTn, B11 TDI, B14 EMU1 | GPIO3_8, B15 PWRONRSTn, B18 NMIn, C1 DDR_A9, C2 DDR_A4, C3 DDR_A3, C4 DDR_BA0, C11 TMS, C14 EMU0 | GPIO3_7, D1 DDR_CKn, D2 DDR_CK, D3 DDR_A15, D4 DDR_A8, D5 DDR_A6, D14 XDMA_EVENT_INTR1, E1 DDR_BA1, E2 DDR_A7, E3 DDR_A12, E4 DDR_A2, F1 DDR_CASn, F2 DDR_A11, F3 DDR_A0, F4 DDR_A10, F17 MMC0_DAT3, F18 MMC0_DAT2, G1 DDR_ODT, G2 DDR_RESETn, G3 DDR_CKE, G4 DDR_RASn, G15 MMC0_DAT1, G16 MMC0_DAT0, G17 MMC0_CLK, G18 MMC0_CMD, H1 DDR_A1, H2 DDR_CSn0, H3 DDR_A13, H4 DDR_A14, J1 DDR_D8, J2 DDR_DQM1, J3 DDR_VTP, J4 DDR_VREF, K1 DDR_D9, K2 DDR_D10, K3 DDR_D11, K4 DDR_D12, L1 DDR_DQS1, L2 DDR_DQSn1, L3 DDR_D13, L4 DDR_D14, M1 DDR_D15, M2 DDR_DQM0, M3 DDR_D0, M4 DDR_D1, N1 DDR_D2, N2 DDR_D3, N3 DDR_D4, N4 DDR_D5, P1 DDR_DQS0, P2 DDR_DQSn0, P3 DDR_D6, P4 DDR_D7, R7 GPMC_ADVn_ALE, R8 GPMC_AD2, R9 GPMC_AD6, R12 GPMC_AD13, R13 GPMC_A0, R14 GPMC_A4, T6 GPMC_BEn0_CLE, T7 GPMC_OEn_REn, T8 GPMC_AD3, T9 GPMC_AD7, T10 GPMC_AD9, T11 GPMC_AD10, T12 GPMC_AD12, T13 GPMC_CSn3, T14 GPMC_A3, T15 GPMC_A7, T16 GPMC_A10, T17 GPMC_WAIT0, U6 GPMC_WEn, U7 GPMC_AD0, U8 GPMC_AD4, U9 GPMC_CSn1, U10 GPMC_AD8, U11 XTALOUT, U12 GPMC_AD11, U13 GPMC_AD15, U14 GPMC_A2, U15 GPMC_A6, U16 GPMC_A9, U17 GPMC_WPn, U18 GPMC_BEn1, V6 GPMC_CSn0, V7 GPMC_AD1, V8 GPMC_AD5, V9 GPMC_CSn2, V10 XTALIN, V11 VSS_OSC, V12 GPMC_CLK, V13 GPMC_AD14, V14 GPMC_A1, V15 GPMC_A5, V16 GPMC_A8, V17 GPMC_A11
part B pins: A7 AIN3, A8 AIN6, A9 VREFN, A13 MCASP0_ACLKX, A14 MCASP0_AHCLKX, A16 SPI0_CS0, A17 SPI0_SCLK, B6 AIN0, B7 AIN2, B8 AIN5, B9 VREFP, B12 MCASP0_ACLKR, B13 MCASP0_FSX, B16 SPI0_D1, B17 SPI0_D0, C5 EXT_WAKEUP, C6 PMIC_POWER_EN, C7 AIN1, C8 AIN4, C9 AIN7, C12 MCASP0_AHCLKR, C13 MCASP0_FSR, C15 SPI0_CS1, C16 I2C0_SCL, C17 I2C0_SDA, C18 ECAP0_IN_PWM0_OUT, D12 MCASP0_AXR0, D13 MCASP0_AXR1, D15 UART1_TXD, D16 UART1_RXD, D17 UART1_RTSn, D18 UART1_CTSn, E15 UART0_RXD, E16 UART0_TXD, E17 UART0_RTSn, E18 UART0_CTSn, F15 USB1_DRVVBUS, F16 USB0_DRVVBUS, H16 MII1_COL, H17 MII1_CRS, H18 MII1_REFCLK, J15 MII1_RXERR, J16 MII1_TXEN, J17 MII1_RXDV, J18 MII1_TXD3, K15 MII1_TXD2, K16 MII1_TXD1, K17 MII1_TXD0, K18 MII1_TXCLK, L15 MII1_RXD1, L16 MII1_RXD2, L17 MII1_RXD3, L18 MII1_RXCLK, M15 USB0_CE, M16 MII1_RXD0, M17 MDIO_DATA, M18 MDIO_CLK, N17 USB0_DP, N18 USB0_DM, P15 USB0_VBUS, P16 USB0_ID, P17 USB1_ID, P18 USB1_CE, R1 LCD_DATA0, R2 LCD_DATA1, R3 LCD_DATA2, R4 LCD_DATA3, R5 LCD_HSYNC, R6 LCD_AC_BIAS_EN, R17 USB1_DP, R18 USB1_DM, T1 LCD_DATA4, T2 LCD_DATA5, T3 LCD_DATA6, T4 LCD_DATA7, T5 LCD_DATA15, T18 USB1_VBUS, U1 LCD_DATA8, U2 LCD_DATA9, U3 LCD_DATA10, U4 LCD_DATA11, U5 LCD_VSYNC, V2 CD_DATA12, V3 LCD_DATA13, V4 LCD_DATA14, V5 LCD_PCLK
part C pins: A1 VSS, A2 VDD_MPU_MON, A3 RESERVED, A18 VSS, B4 RTC_KALDO_ENn, C10 CAP_VBB_MPU, D6 CAP_VDD_RTC, D7 VDDS_RTC, D8 VDDA_ADC, D9 CAP_VDD_SRAM_CORE, D10 VDDS_SRAM_MPU_BB, D11 CAP_VDD_SRAM_MPU, E5 VDDS_DDR, E6 VDDS, E7 VDDS_PLL_DDR, E8 VSSA_ADC, E9 VDDS_SRAM_CORE_BG, E10 VDDSHV6, E11 VDDSHV6, E12 VDDSHV6, E13 VDDSHV6, E14 VDDS, F5 VDDS_DDR, F6 VDD_CORE, F7 VDD_CORE, F8 VSS, F9 VDDS, F10 VDD_MPU, F11 VDD_MPU, F12 VDD_MPU, F13 VDD_MPU, F14 VDDSHV6, G5 VDDS_DDR, G6 VDD_CORE, G7 VDD_CORE, G8 VSS, G9 VSS, G10 VDD_CORE, G11 VSS, G12 VSS, G13 VDD_MPU, G14 VDDSHV6, H5 VDDS_DDR, H6 VSS, H7 VSS, H8 VSS, H9 VSS, H10 VSS, H11 VDD_CORE, H12 VSS, H13 VDD_MPU, H14 VDDSHV4, H15 VDDS_PLL_MPU, J5 VDDS_DDR, J6 VSS, J7 VSS, J8 VSS, J9 VSS, J10 VSS, J11 VSS, J12 VDD_CORE, J13 VDD_MPU, J14 VDDSHV4, K5 VDDS_DDR, K6 VDD_CORE, K7 VSS, K8 VDD_CORE, K9 VSS, K10 VSS, K11 VSS, K12 VDD_CORE, K13 VDDS, K14 VDDSHV5, L5 VDDS_DDR, L6 VDD_CORE, L7 VDD_CORE, L8 VDD_CORE, L9 VDD_CORE, L10 VSS, L11 VSS, L12 VSS, L13 VSS, L14 VDDSHV5, M5 VPP, M6 VSS, M7 VSS, M8 VSS, M9 VSS, M10 VSS, M11 VDD_CORE, M12 VSS, M13 VDD_CORE, M14 VSSA_USB, N5 VDDSHV6, N6 VDDS, N7 VSS, N8 VDD_CORE, N9 VDD_CORE, N10 VSS, N11 VSS, N12 VDD_CORE, N13 VDD_CORE, N14 VSSA_USB, N15 VDDA3P3V_USB0, N16 VDDA1P8V_USB0, P5 VDDSHV6, P6 VDDSHV6, P7 VDDSHV1, P8 VDDSHV1, P9 VDDS, P10 VDDSHV2, P11 VDDSHV2, P12 VDDSHV3, P13 VDDSHV3, P14 VDDS, R10 VDDS_PLL_CORE_LCD, R11 VDDS_OSC, R15 VDDA3P3V_USB1, R16 VDDA1P8V_USB1, V1 VSS, V18 VSS
part A text: [OSC0_IN]; [PORZ]; [nRESETIN_OUT]; [OSC0_OUT]; [RTC_PORZ]; [NNMI]; [OSC1_IN]; [XDMA_EVENT_INTR0 | TIMER4 | CLKOUT1 | SPI1_CS1 | PR1_PRU1_PRU_R31_16 | EMU2 | GPIO0_19]; [XDMA_EVENT_INTR1 | TCLKIN | CLKOUT2 | TIMER7 | PR1_PRU0_PRU_R31_16 | EMU3 | GPIO0_20]; [OSC1_OUT]; [NTRST]; [GPMC_CLK | LCD_MEMORY_CLK | GPMC_WAIT1 | MMC2_CLK | PR1_MII1_CRS | PR1_MDIO_MDCLK | MCASP0_FSR | GPIO2_1]; [GPMC_CSN0 | GPIO1_29]; [GPMC_CSN1 | GPMC_CLK | MMC1_CLK | PR1_EDIO_DATA_IN6 | PR1_EDIO_DATA_OUT6 | PR1_PRU1_PRU_R30_12 | PR1_PRU1_PRU_R31_12 | GPIO1_30]; [GPMC_CSN2 | GPMC_BE1N | MMC1_CMD | PR1_EDIO_DATA_IN7 | PR1_EDIO_DATA_OUT7 | PR1_PRU1_PRU_R30_13 | PR1_PRU1_PRU_R31_13 | GPIO1_31]; [GPMC_CSN3 | MMC2_CMD | PR1_MII0_CRS | PR1_MDIO_DATA | EMU4 | GPIO2_0]; [GPMC_WEN | TIMER6 | GPIO2_4]; [GPMC_OEN_REN | TIMER6 | GPIO2_3]; [GPMC_ADVN_ALE | TIMER4 | GPIO2_2]; [GPMC_BE0N_CLE | TIMER5 | GPIO2_5]; [GPMC_BE1N | GMII2_COL | GPMC_CSN6 | MMC2_DAT3 | GPMC_DIR | PR1_MII1_RXLINK | MCASP0_ACLKR | GPIO1_28]; [GPMC_WAIT0 | GMII2_CRS | GPMC_CSN4 | RMII2_CRS_DV | MMC1_SDCD | PR1_MII1_COL | UART4_RXD | GPIO0_30]; [GPMC_WPN | GMII2_RXERR | GPMC_CSN5 | RMII2_RXERR | MMC2_SDCD | PR1_MII1_TXEN | UART4_TXD | GPIO0_31]; [GPMC_AD0 | MMC1_DAT0 | GPIO1_0]; [GPMC_AD1 | MMC1_DAT1 | GPIO1_1]; [GPMC_AD2 | MMC1_DAT2 | GPIO1_2]; [GPMC_AD3 | MMC1_DAT3 | GPIO1_3]; [GPMC_AD4 | MMC1_DAT4 | GPIO1_4]; [GPMC_AD5 | MMC1_DAT5 | GPIO1_5]; [GPMC_AD6 | MMC1_DAT6 | GPIO1_6]; [GPMC_AD7 | MMC1_DAT7 | GPIO1_7]; [GPMC_AD8 | LCD_DATA23 | MMC1_DAT0 | MMC2_DAT4 | EHRPWM2A | PR1_MII_MT0_CLK | GPIO0_22]; [GPMC_AD9 | LCD_DATA22 | MMC1_DAT1 | MMC2_DAT5 | EHRPWM2B | PR1_MII0_COL | GPIO0_23]; [GPMC_AD10 | LCD_DATA21 | MMC1_DAT2 | MMC2_DAT6 | EHRPWM2_TRIPZONE_INPUT | PR1_MII0_TXEN | GPIO0_26]; [GPMC_AD11 | LCD_DATA20 | MMC1_DAT3 | MMC2_DAT7 | EHRPWM2_SYNCO | PR1_MII0_TXD3 | GPIO0_27]; [GPMC_AD12 | LCD_DATA19 | MMC1_DAT4 | MMC2_DAT0 | EQEP2A_IN | PR1_MII0_TXD2 | PR1_PRU0_PRU_R30_14 | GPIO1_12]; [GPMC_AD13 | LCD_DATA18 | MMC1_DAT5 | MMC2_DAT1 | EQEP2B_IN | PR1_MII0_TXD1 | PR1_PRU0_PRU_R30_15 | GPIO1_13]; [GPMC_AD14 | LCD_DATA17 | MMC1_DAT6 | MMC2_DAT2 | EQEP2_INDEX | PR1_MII0_TXD0 | PR1_PRU0_PRU_R31_14 | GPIO1_14]; [GPMC_AD15 | LCD_DATA16 | MMC1_DAT7 | MMC2_DAT3 | EQEP2_STROBE | PR1_ECAP0_ECAP_CAPIN_APWM_O | PR1_PRU0_PRU_R31_15 | GPIO1_15]; [GPMC_A0 | GMII2_TXEN | RGMII2_TCTL | RMII2_TXEN | GPMC_A16 | PR1_MII_MT1_CLK | EHRPWM1_TRIPZONE_INPUT | GPIO1_16]; [GPMC_A1 | GMII2_RXDV | RGMII2_RCTL | MMC2_DAT0 | GPMC_A17 | PR1_MII1_TXD3 | EHRPWM0_SYNCO | GPIO1_17]; [GPMC_A2 | GMII2_TXD3 | RGMII2_TD3 | MMC2_DAT1 | GPMC_A18 | PR1_MII1_TXD2 | EHRPWM1A | GPIO1_18]; [GPMC_A3 | GMII2_TXD2 | RGMII2_TD2 | MMC2_DAT2 | GPMC_A19 | PR1_MII1_TXD1 | EHRPWM1B | GPIO1_19]; [GPMC_A4 | GMII2_TXD1 | RGMII2_TD1 | RMII2_TXD1 | GPMC_A20 | PR1_MII1_TXD0 | EQEP1A_IN | GPIO1_20]; [GPMC_A5 | GMII2_TXD0 | RGMII2_TD0 | RMII2_TXD0 | GPMC_A21 | PR1_MII1_RXD3 | EQEP1B_IN | GPIO1_21]; [GPMC_A6 | GMII2_TXCLK | RGMII2_TCLK | MMC2_DAT4 | GPMC_A22 | PR1_MII1_RXD2 | EQEP1_INDEX | GPIO1_22]; [GPMC_A7 | GMII2_RXCLK | RGMII2_RCLK | MMC2_DAT5 | GPMC_A23 | PR1_MII1_RXD1 | EQEP1_STROBE | GPIO1_23]; [GPMC_A8 | GMII2_RXD3 | RGMII2_RD3 | MMC2_DAT6 | GPMC_A24 | PR1_MII1_RXD0 | MCASP0_ACLKX | GPIO1_24]; [GPMC_A9 | GMII2_RXD2 | RGMII2_RD2 | MMC2_DAT7 | GPMC_A25 | PR1_MII_MR1_CLK | MCASP0_FSX | GPIO1_25]; [GPMC_A10 | GMII2_RXD1 | RGMII2_RD1 | RMII2_RXD1 | GPMC_A26 | PR1_MII1_RXDV | MCASP0_AXR0 | GPIO1_26]; [GPMC_A11 | GMII2_RXD0 | RGMII2_RD0 | RMII2_RXD0 | GPMC_A27 | PR1_MII1_RXER | MCASP0_AXR1 | GPIO1_27]; [MMC0_CLK | GPMC_A24 | UART3_CTSN | UART2_RXD | DCAN1_TX | PR1_PRU0_PRU_R30_12 | PR1_PRU0_PRU_R31_12 | GPIO2_30]; [MMC0_CMD | GPMC_A25 | UART3_RTSN | UART2_TXD | DCAN1_RX | PR1_PRU0_PRU_R30_13 | PR1_PRU0_PRU_R31_13 | GPIO2_31]; [MMC0_DAT0 | GPMC_A23 | UART5_RTSN | UART3_TXD | UART1_RIN | PR1_PRU0_PRU_R30_11 | PR1_PRU0_PRU_R31_11 | GPIO2_29]; [MMC0_DAT1 | GPMC_A22 | UART5_CTSN | UART3_RXD | UART1_DTRN | PR1_PRU0_PRU_R30_10 | PR1_PRU0_PRU_R31_10 | GPIO2_28]; [MMC0_DAT2 | GPMC_A21 | UART4_RTSN | TIMER6 | UART1_DSRN | PR1_PRU0_PRU_R30_9 | PR1_PRU0_PRU_R31_9 | GPIO2_27]; [MMC0_DAT3 | GPMC_A20 | UART4_CTSN | TIMER5 | UART1_DCDN | PR1_PRU0_PRU_R30_8 | PR1_PRU0_PRU_R31_8 | GPIO2_26]
part B text: [GMII1_TXCLK | UART2_RXD | RGMII1_TCLK | MMC0_DAT7 | MMC1_DAT0 | UART1_DCDN | MCASP0_ACLKX | GPIO3_9]; [GMII1_TXD0 | RMII1_TXD0 | RGMII1_TD0 | MCASP1_AXR2 | MCASP1_ACLKR | EQEP0B_IN | MMC1_CLK | GPIO0_28]; [GMII1_TXD1 | RMII1_TXD1 | RGMII1_TD1 | MCASP1_FSR | MCASP1_AXR1 | EQEP0A_IN | MMC1_CMD | GPIO0_21]; [GMII1_TXD2 | DCAN0_RX | RGMII1_TD2 | UART4_TXD | MCASP1_AXR0 | MMC2_DAT2 | MCASP0_AHCLKX | GPIO0_17]; [GMII1_TXD3 | DCAN0_TX | RGMII1_TD3 | UART4_RXD | MCASP1_FSX | MMC2_DAT1 | MCASP0_FSR | GPIO0_16]; [GMII1_TXEN | RMII1_TXEN | RGMII1_TCTL | TIMER4 | MCASP1_AXR0 | EQEP0_INDEX | MMC2_CMD | GPIO3_3]; [GMII1_CRS | RMII1_CRS_DV | SPI1_D0 | I2C1_SDA | MCASP1_ACLKX | UART5_CTSN | UART2_RXD | GPIO3_1]; [GMII1_COL | RMII2_REFCLK | SPI1_SCLK | UART5_RXD | MCASP1_AXR2 | MMC2_DAT3 | MCASP0_AXR2 | GPIO3_0]; [GMII1_RXCLK | UART2_TXD | RGMII1_RCLK | MMC0_DAT6 | MMC1_DAT1 | UART1_DSRN | MCASP0_FSX | GPIO3_10]; [GMII1_RXD0 | RMII1_RXD0 | RGMII1_RD0 | MCASP1_AHCLKX | MCASP1_AHCLKR | MCASP1_ACLKR | MCASP0_AXR3 | GPIO2_21]; [GMII1_RXD1 | RMII1_RXD1 | RGMII1_RD1 | MCASP1_AXR3 | MCASP1_FSR | EQEP0_STROBE | MMC2_CLK | GPIO2_20]; [GMII1_RXD2 | UART3_TXD | RGMII1_RD2 | MMC0_DAT4 | MMC1_DAT3 | UART1_RIN | MCASP0_AXR1 | GPIO2_19]; [GMII1_RXD3 | UART3_RXD | RGMII1_RD3 | MMC0_DAT5 | MMC1_DAT2 | UART1_DTRN | MCASP0_AXR0 | GPIO2_18]; [GMII1_RXERR | RMII1_RXERR | SPI1_D1 | I2C1_SCL | MCASP1_FSX | UART5_RTSN | UART2_TXD | GPIO3_2]; [GMII1_RXDV | LCD_MEMORY_CLK | RGMII1_RCTL | UART5_TXD | MCASP1_ACLKX | MMC2_DAT0 | MCASP0_ACLKR | GPIO3_4]; [SPI0_SCLK | UART2_RXD | I2C2_SDA | EHRPWM0A | PR1_UART0_CTS_N | PR1_EDIO_SOF | EMU2 | GPIO0_2]; [RMII1_REFCLK | XDMA_EVENT_INTR2 | SPI1_CS0 | UART5_TXD | MCASP1_AXR3 | MMC0_POW | MCASP1_AHCLKX | GPIO0_29]; [SPI0_D0 | UART2_TXD | I2C2_SCL | EHRPWM0B | PR1_UART0_RTS_N | PR1_EDIO_LATCH_IN | EMU3 | GPIO0_3]; [MDIO_CLK | TIMER5 | UART5_TXD | UART3_RTSN | MMC0_SDWP | MMC1_CLK | MMC2_CLK | GPIO0_1]; [SPI0_D1 | MMC1_SDWP | I2C1_SDA | EHRPWM0_TRIPZONE_INPUT | PR1_UART0_RXD | PR1_EDIO_DATA_IN0 | PR1_EDIO_DATA_OUT0 | GPIO0_4]; [MDIO_DATA | TIMER6 | UART5_RXD | UART3_CTSN | MMC0_SDCD | MMC1_CMD | MMC2_CMD | GPIO0_0]; [SPI0_CS0 | MMC2_SDWP | I2C1_SCL | EHRPWM0_SYNCI | PR1_UART0_TXD | PR1_EDIO_DATA_IN1 | PR1_EDIO_DATA_OUT1 | GPIO0_5]; [SPI0_CS1 | UART3_RXD | ECAP1_IN_PWM1_OUT | MMC0_POW | XDMA_EVENT_INTR2 | MMC0_SDCD | EMU4 | GPIO0_6]; [LCD_DATA0 | GPMC_A0 | PR1_MII_MT0_CLK | EHRPWM2A | PR1_PRU1_PRU_R30_0 | PR1_PRU1_PRU_R31_0 | GPIO2_6]; [UART0_TXD | SPI1_CS1 | DCAN0_RX | I2C2_SCL | ECAP1_IN_PWM1_OUT | PR1_PRU1_PRU_R30_15 | PR1_PRU1_PRU_R31_15 | GPIO1_11]; [LCD_DATA1 | GPMC_A1 | PR1_MII0_TXEN | EHRPWM2B | PR1_PRU1_PRU_R30_1 | PR1_PRU1_PRU_R31_1 | GPIO2_7]; [UART0_RXD | SPI1_CS0 | DCAN0_TX | I2C2_SDA | ECAP2_IN_PWM2_OUT | PR1_PRU1_PRU_R30_14 | PR1_PRU1_PRU_R31_14 | GPIO1_10]; [LCD_DATA2 | GPMC_A2 | PR1_MII0_TXD3 | EHRPWM2_TRIPZONE_INPUT | PR1_PRU1_PRU_R30_2 | PR1_PRU1_PRU_R31_2 | GPIO2_8]; [UART0_CTSN | UART4_RXD | DCAN1_TX | I2C1_SDA | SPI1_D0 | TIMER7 | PR1_EDC_SYNC0_OUT | GPIO1_8]; [LCD_DATA3 | GPMC_A3 | PR1_MII0_TXD2 | EHRPWM2_SYNCI_O | PR1_PRU1_PRU_R30_3 | PR1_PRU1_PRU_R31_3 | GPIO2_9]; [UART0_RTSN | UART4_TXD | DCAN1_RX | I2C1_SCL | SPI1_D1 | SPI1_CS0 | PR1_EDC_SYNC1_OUT | GPIO1_9]; [LCD_DATA4 | GPMC_A4 | PR1_MII0_TXD1 | EQEP2A_IN | PR1_PRU1_PRU_R30_4 | PR1_PRU1_PRU_R31_4 | GPIO2_10]; [LCD_DATA5 | GPMC_A5 | PR1_MII0_TXD0 | EQEP2B_IN | PR1_PRU1_PRU_R30_5 | PR1_PRU1_PRU_R31_5 | GPIO2_11]; [LCD_DATA6 | GPMC_A6 | PR1_EDIO_DATA_IN6 | EQEP2_INDEX | PR1_EDIO_DATA_OUT6 | PR1_PRU1_PRU_R30_6 | PR1_PRU1_PRU_R31_6 | GPIO2_12]; [LCD_DATA7 | GPMC_A7 | PR1_EDIO_DATA_IN7 | EQEP2_STROBE | PR1_EDIO_DATA_OUT7 | PR1_PRU1_PRU_R30_7 | PR1_PRU1_PRU_R31_7 | GPIO2_13]; [LCD_DATA8 | GPMC_A12 | EHRPWM1_TRIPZONE_INPUT | MCASP0_ACLKX | UART5_TXD | PR1_MII0_RXD3 | UART2_CTSN | GPIO2_14]; [UART1_TXD | MMC2_SDWP | DCAN1_RX | I2C1_SCL | PR1_UART0_TXD | PR1_PRU0_PRU_R31_16 | GPIO0_15]; [LCD_DATA9 | GPMC_A13 | EHRPWM1_SYNCO | MCASP0_FSX | UART5_RXD | PR1_MII0_RXD2 | UART2_RTSN | GPIO2_15]; [UART1_RXD | MMC1_SDWP | DCAN1_TX | I2C1_SDA | PR1_UART0_RXD | PR1_PRU1_PRU_R31_16 | GPIO0_14]; [LCD_DATA10 | GPMC_A14 | EHRPWM1A | MCASP0_AXR0 | PR1_MII0_RXD1 | UART3_CTSN | GPIO2_16]; [UART1_CTSN | TIMER6 | DCAN0_TX | I2C2_SDA | SPI1_CS0 | PR1_UART0_CTS_N | PR1_EDC_LATCH0_IN | GPIO0_12]; [LCD_DATA11 | GPMC_A15 | EHRPWM1B | MCASP0_AHCLKR | MCASP0_AXR2 | PR1_MII0_RXD0 | UART3_RTSN | GPIO2_17]; [UART1_RTSN | TIMER5 | DCAN0_RX | I2C2_SCL | SPI1_CS1 | PR1_UART0_RTS_N | PR1_EDC_LATCH1_IN | GPIO0_13]; [LCD_DATA12 | GPMC_A16 | EQEP1A_IN | MCASP0_ACLKR | MCASP0_AXR2 | PR1_MII0_RXLINK | UART4_CTSN | GPIO0_8]; [LCD_DATA13 | GPMC_A17 | EQEP1B_IN | MCASP0_FSR | MCASP0_AXR3 | PR1_MII0_RXER | UART4_RTSN | GPIO0_9]; [I2C0_SCL | TIMER7 | UART2_RTSN | ECAP1_IN_PWM1_OUT | GPIO3_6]; [LCD_DATA14 | GPMC_A18 | EQEP1_INDEX | MCASP0_AXR1 | UART5_RXD | PR1_MII_MR0_CLK | UART5_CTSN | GPIO0_10]; [I2C0_SDA | TIMER4 | UART2_CTSN | ECAP2_IN_PWM2_OUT | GPIO3_5]; [LCD_DATA15 | GPMC_A19 | EQEP1_STROBE | MCASP0_AHCLKX | MCASP0_AXR3 | PR1_MII0_RXDV | UART5_RTSN | GPIO0_11]; [LCD_PCLK | GPMC_A10 | PR1_MII0_CRS | PR1_EDIO_DATA_IN4 | PR1_EDIO_DATA_OUT4 | PR1_PRU1_PRU_R30_10 | PR1_PRU1_PRU_R31_10 | GPIO2_24]; [LCD_VSYNC | GPMC_A8 | PR1_EDIO_DATA_IN2 | PR1_EDIO_DATA_OUT2 | PR1_PRU1_PRU_R30_8 | PR1_PRU1_PRU_R31_8 | GPIO2_22]; [LCD_HSYNC | GPMC_A9 | PR1_EDIO_DATA_IN3 | PR1_EDIO_DATA_OUT3 | PR1_PRU1_PRU_R30_9 | PR1_PRU1_PRU_R31_9 | GPIO2_23]; [LCD_AC_BIAS_EN | GPMC_A11 | PR1_MII1_CRS | PR1_EDIO_DATA_IN5 | PR1_EDIO_DATA_OUT5 | PR1_PRU1_PRU_R30_11 | PR1_PRU1_PRU_R31_11 | GPIO2_25]; [USB0_DRVVBUS | GPIO0_18]; [MCASP0_AHCLKX | EQEP0_STROBE | MCASP0_AXR3 | MCASP1_AXR1 | EMU4 | PR1_PRU0_PRU_R30_7 | PR1_PRU0_PRU_R31_7 | GPIO3_21]; [MCASP0_ACLKX | EHRPWM0A | SPI1_SCLK | MMC0_SDCD | PR1_PRU0_PRU_R30_0 | PR1_PRU0_PRU_R31_0 | GPIO3_14]; [MCASP0_FSX | EHRPWM0B | SPI1_D0 | MMC1_SDCD | PR1_PRU0_PRU_R30_1 | PR1_PRU0_PRU_R31_1 | GPIO3_15]; [MCASP0_AXR0 | EHRPWM0_TRIPZONE_INPUT | SPI1_D1 | MMC2_SDCD | PR1_PRU0_PRU_R30_2 | PR1_PRU0_PRU_R31_2 | GPIO3_16]; [MCASP0_AHCLKR | EHRPWM0_SYNCI_O | MCASP0_AXR2 | SPI1_CS0 | ECAP2_IN_PWM2_OUT | PR1_PRU0_PRU_R30_3 | PR1_PRU0_PRU_R31_3 | GPIO3_17]; [USB1_DRVVBUS | GPIO3_13]; [MCASP0_ACLKR | EQEP0A_IN | MCASP0_AXR2 | MCASP1_ACLKX | MMC0_SDWP | PR1_PRU0_PRU_R30_4 | PR1_PRU0_PRU_R31_4 | GPIO3_18]; [MCASP0_FSR | EQEP0B_IN | MCASP0_AXR3 | MCASP1_FSX | EMU2 | PR1_PRU0_PRU_R30_5 | PR1_PRU0_PRU_R31_5 | GPIO3_19]; [MCASP0_AXR1 | EQEP0_INDEX | MCASP1_AXR0 | EMU3 | PR1_PRU0_PRU_R30_6 | PR1_PRU0_PRU_R31_6 | GPIO3_20]; [ECAP0_IN_PWM0_OUT | UART3_TXD | SPI1_CS1 | PR1_ECAP0_ECAP_CAPIN_APWM_O | SPI1_SCLK | MMC0_SDWP | XDMA_EVENT_INTR2 | GPIO0_7]
part C text: [ENZ_KALDO_1P8V]; [TESTOUT]

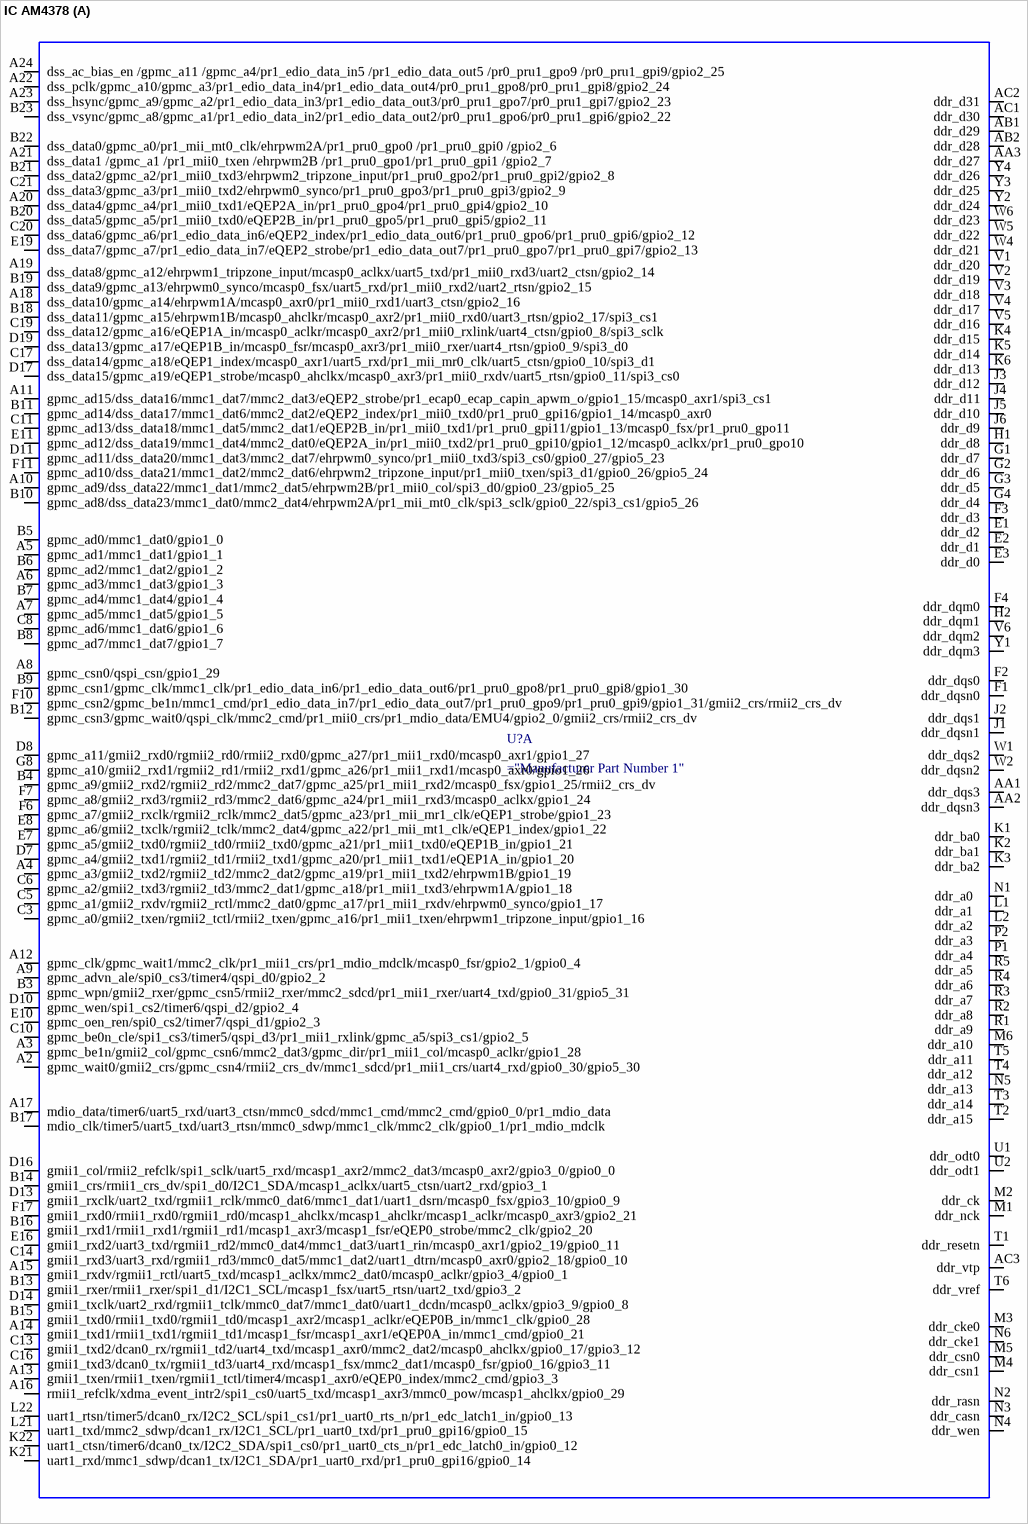
[diagram p9: symbol IC AM4378]

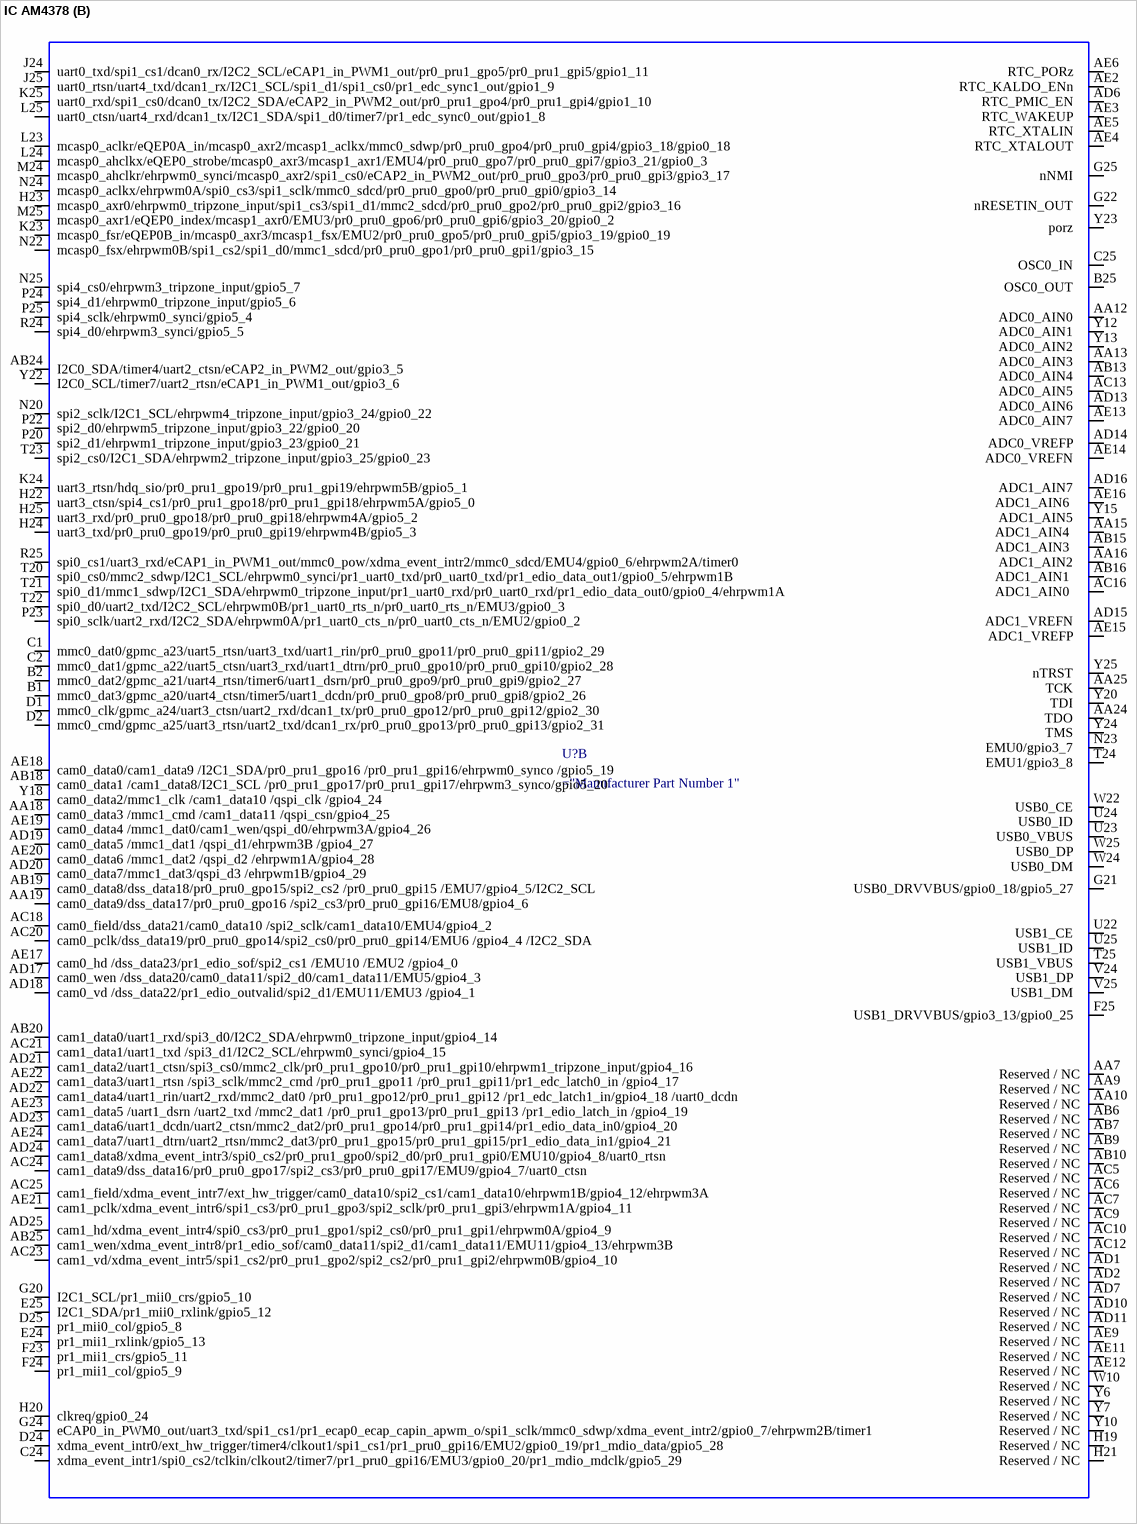
[diagram p10: symbol IC AM4378]

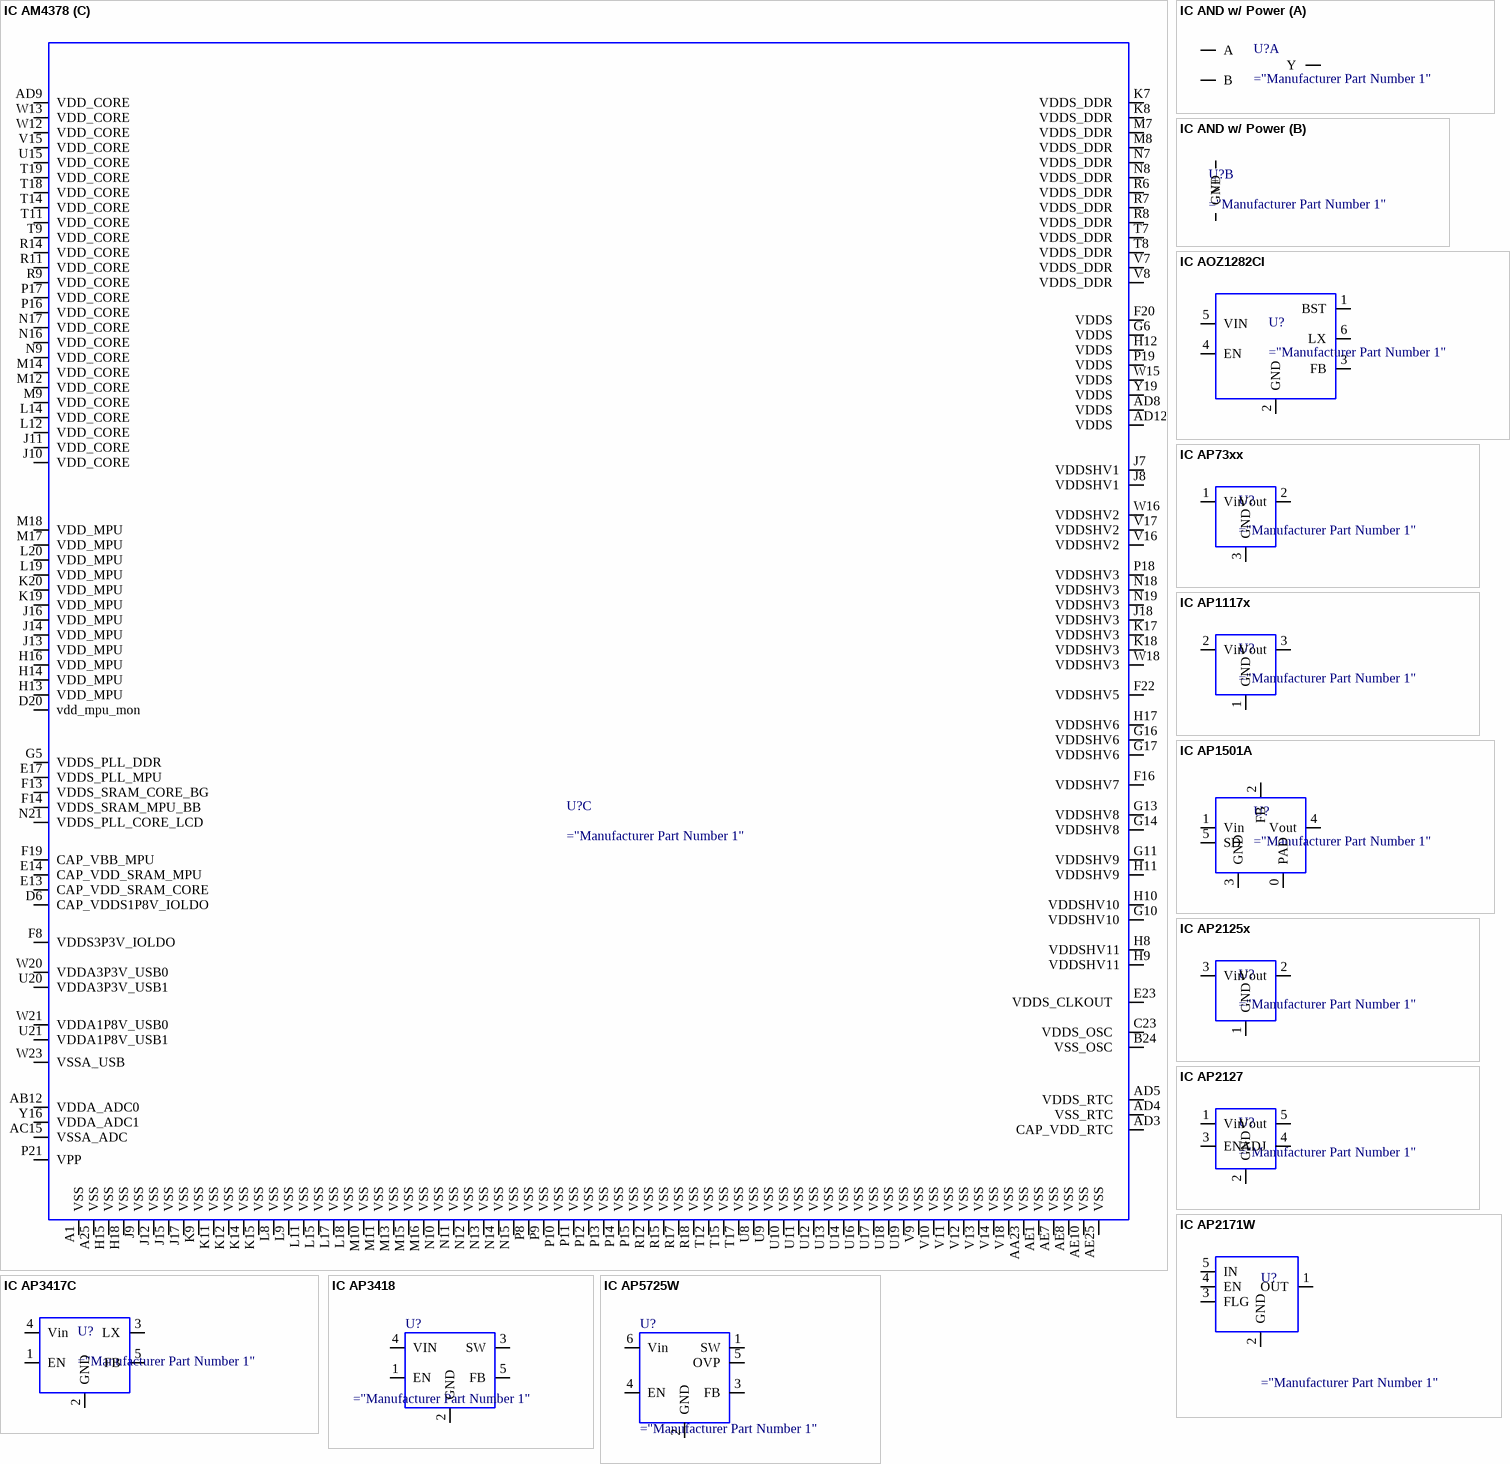
[diagram p11: symbols IC AM4378 to IC AP5725W]

## IC AM4378
designator U?
MPU ARM Cortex-A9, TI AM4378
part A pins: A2 gpmc_wait0/gmii2_crs/gpmc_csn4/rmii2_crs_dv/mmc1_sdcd/pr1_mii1_crs/uart4_rxd/gpio0_30/gpio5_30  , A3 gpmc_be1n/gmii2_col/gpmc_csn6/mmc2_dat3/gpmc_dir/pr1_mii1_col/mcasp0_aclkr/gpio1_28  , A4 gpmc_a3/gmii2_txd2/rgmii2_td2/mmc2_dat2/gpmc_a19/pr1_mii1_txd2/ehrpwm1B/gpio1_19  , A5 gpmc_ad1/mmc1_dat1/gpio1_1  , A6 gpmc_ad3/mmc1_dat3/gpio1_3  , A7 gpmc_ad5/mmc1_dat5/gpio1_5  , A8 gpmc_csn0/qspi_csn/gpio1_29  , A9 gpmc_advn_ale/spi0_cs3/timer4/qspi_d0/gpio2_2  , A10 gpmc_ad9/dss_data22/mmc1_dat1/mmc2_dat5/ehrpwm2B/pr1_mii0_col/spi3_d0/gpio0_23/gpio5_25  , A11 gpmc_ad15/dss_data16/mmc1_dat7/mmc2_dat3/eQEP2_strobe/pr1_ecap0_ecap_capin_apwm_o/gpio1_15/mcasp0_axr1/spi3_cs1  , A12 gpmc_clk/gpmc_wait1/mmc2_clk/pr1_mii1_crs/pr1_mdio_mdclk/mcasp0_fsr/gpio2_1/gpio0_4  , A13 gmii1_txen/rmii1_txen/rgmii1_tctl/timer4/mcasp1_axr0/eQEP0_index/mmc2_cmd/gpio3_3  , A14 gmii1_txd1/rmii1_txd1/rgmii1_td1/mcasp1_fsr/mcasp1_axr1/eQEP0A_in/mmc1_cmd/gpio0_21  , A15 gmii1_rxdv/rgmii1_rctl/uart5_txd/mcasp1_aclkx/mmc2_dat0/mcasp0_aclkr/gpio3_4/gpio0_1  , A16 rmii1_refclk/xdma_event_intr2/spi1_cs0/uart5_txd/mcasp1_axr3/mmc0_pow/mcasp1_ahclkx/gpio0_29  , A17 mdio_data/timer6/uart5_rxd/uart3_ctsn/mmc0_sdcd/mmc1_cmd/mmc2_cmd/gpio0_0/pr1_mdio_data  , A18 dss_data10/gpmc_a14/ehrpwm1A/mcasp0_axr0/pr1_mii0_rxd1/uart3_ctsn/gpio2_16  , A19 dss_data8/gpmc_a12/ehrpwm1_tripzone_input/mcasp0_aclkx/uart5_txd/pr1_mii0_rxd3/uart2_ctsn/gpio2_14  , A20 dss_data4/gpmc_a4/pr1_mii0_txd1/eQEP2A_in/pr1_pru0_gpo4/pr1_pru0_gpi4/gpio2_10  , A21 dss_data1 /gpmc_a1 /pr1_mii0_txen /ehrpwm2B /pr1_pru0_gpo1/pr1_pru0_gpi1 /gpio2_7  , A22 dss_pclk/gpmc_a10/gpmc_a3/pr1_edio_data_in4/pr1_edio_data_out4/pr0_pru1_gpo8/pr0_pru1_gpi8/gpio2_24  , A23 dss_hsync/gpmc_a9/gpmc_a2/pr1_edio_data_in3/pr1_edio_data_out3/pr0_pru1_gpo7/pr0_pru1_gpi7/gpio2_23  , A24 dss_ac_bias_en /gpmc_a11 /gpmc_a4/pr1_edio_data_in5 /pr1_edio_data_out5 /pr0_pru1_gpo9 /pr0_pru1_gpi9/gpio2_25   , AA1 ddr_dqs3, AA2 ddr_dqsn3, AA3 ddr_d27, AB1 ddr_d29, AB2 ddr_d28, AC1 ddr_d30, AC2 ddr_d31, AC3 ddr_vtp, B3 gpmc_wpn/gmii2_rxer/gpmc_csn5/rmii2_rxer/mmc2_sdcd/pr1_mii1_rxer/uart4_txd/gpio0_31/gpio5_31  , B4 gpmc_a9/gmii2_rxd2/rgmii2_rd2/mmc2_dat7/gpmc_a25/pr1_mii1_rxd2/mcasp0_fsx/gpio1_25/rmii2_crs_dv  , B5 gpmc_ad0/mmc1_dat0/gpio1_0  , B6 gpmc_ad2/mmc1_dat2/gpio1_2  , B7 gpmc_ad4/mmc1_dat4/gpio1_4  , B8 gpmc_ad7/mmc1_dat7/gpio1_7  , B9 gpmc_csn1/gpmc_clk/mmc1_clk/pr1_edio_data_in6/pr1_edio_data_out6/pr1_pru0_gpo8/pr1_pru0_gpi8/gpio1_30  , B10 gpmc_ad8/dss_data23/mmc1_dat0/mmc2_dat4/ehrpwm2A/pr1_mii_mt0_clk/spi3_sclk/gpio0_22/spi3_cs1/gpio5_26  , B11 gpmc_ad14/dss_data17/mmc1_dat6/mmc2_dat2/eQEP2_index/pr1_mii0_txd0/pr1_pru0_gpi16/gpio1_14/mcasp0_axr0  , B12 gpmc_csn3/gpmc_wait0/qspi_clk/mmc2_cmd/pr1_mii0_crs/pr1_mdio_data/EMU4/gpio2_0/gmii2_crs/rmii2_crs_dv  , B13 gmii1_rxer/rmii1_rxer/spi1_d1/I2C1_SCL/mcasp1_fsx/uart5_rtsn/uart2_txd/gpio3_2  , B14 gmii1_crs/rmii1_crs_dv/spi1_d0/I2C1_SDA/mcasp1_aclkx/uart5_ctsn/uart2_rxd/gpio3_1  , B15 gmii1_txd0/rmii1_txd0/rgmii1_td0/mcasp1_axr2/mcasp1_aclkr/eQEP0B_in/mmc1_clk/gpio0_28  , B16 gmii1_rxd1/rmii1_rxd1/rgmii1_rd1/mcasp1_axr3/mcasp1_fsr/eQEP0_strobe/mmc2_clk/gpio2_20  , B17 mdio_clk/timer5/uart5_txd/uart3_rtsn/mmc0_sdwp/mmc1_clk/mmc2_clk/gpio0_1/pr1_mdio_mdclk  , B18 dss_data11/gpmc_a15/ehrpwm1B/mcasp0_ahclkr/mcasp0_axr2/pr1_mii0_rxd0/uart3_rtsn/gpio2_17/spi3_cs1  , B19 dss_data9/gpmc_a13/ehrpwm0_synco/mcasp0_fsx/uart5_rxd/pr1_mii0_rxd2/uart2_rtsn/gpio2_15  , B20 dss_data5/gpmc_a5/pr1_mii0_txd0/eQEP2B_in/pr1_pru0_gpo5/pr1_pru0_gpi5/gpio2_11  , B21 dss_data2/gpmc_a2/pr1_mii0_txd3/ehrpwm2_tripzone_input/pr1_pru0_gpo2/pr1_pru0_gpi2/gpio2_8  , B22 dss_data0/gpmc_a0/pr1_mii_mt0_clk/ehrpwm2A/pr1_pru0_gpo0 /pr1_pru0_gpi0 /gpio2_6  , B23 dss_vsync/gpmc_a8/gpmc_a1/pr1_edio_data_in2/pr1_edio_data_out2/pr0_pru1_gpo6/pr0_pru1_gpi6/gpio2_22  , C3 gpmc_a0/gmii2_txen/rgmii2_tctl/rmii2_txen/gpmc_a16/pr1_mii1_txen/ehrpwm1_tripzone_input/gpio1_16  , C5 gpmc_a1/gmii2_rxdv/rgmii2_rctl/mmc2_dat0/gpmc_a17/pr1_mii1_rxdv/ehrpwm0_synco/gpio1_17  , C6 gpmc_a2/gmii2_txd3/rgmii2_td3/mmc2_dat1/gpmc_a18/pr1_mii1_txd3/ehrpwm1A/gpio1_18  , C8 gpmc_ad6/mmc1_dat6/gpio1_6  , C10 gpmc_be0n_cle/spi1_cs3/timer5/qspi_d3/pr1_mii1_rxlink/gpmc_a5/spi3_cs1/gpio2_5  , C11 gpmc_ad13/dss_data18/mmc1_dat5/mmc2_dat1/eQEP2B_in/pr1_mii0_txd1/pr1_pru0_gpi11/gpio1_13/mcasp0_fsx/pr1_pru0_gpo11  , C13 gmii1_txd2/dcan0_rx/rgmii1_td2/uart4_txd/mcasp1_axr0/mmc2_dat2/mcasp0_ahclkx/gpio0_17/gpio3_12  , C14 gmii1_rxd3/uart3_rxd/rgmii1_rd3/mmc0_dat5/mmc1_dat2/uart1_dtrn/mcasp0_axr0/gpio2_18/gpio0_10  , C16 gmii1_txd3/dcan0_tx/rgmii1_td3/uart4_rxd/mcasp1_fsx/mmc2_dat1/mcasp0_fsr/gpio0_16/gpio3_11  , C17 dss_data14/gpmc_a18/eQEP1_index/mcasp0_axr1/uart5_rxd/pr1_mii_mr0_clk/uart5_ctsn/gpio0_10/spi3_d1  , C19 dss_data12/gpmc_a16/eQEP1A_in/mcasp0_aclkr/mcasp0_axr2/pr1_mii0_rxlink/uart4_ctsn/gpio0_8/spi3_sclk  , C20 dss_data6/gpmc_a6/pr1_edio_data_in6/eQEP2_index/pr1_edio_data_out6/pr1_pru0_gpo6/pr1_pru0_gpi6/gpio2_12  , C21 dss_data3/gpmc_a3/pr1_mii0_txd2/ehrpwm0_synco/pr1_pru0_gpo3/pr1_pru0_gpi3/gpio2_9  , D7 gpmc_a4/gmii2_txd1/rgmii2_td1/rmii2_txd1/gpmc_a20/pr1_mii1_txd1/eQEP1A_in/gpio1_20  , D8 gpmc_a11/gmii2_rxd0/rgmii2_rd0/rmii2_rxd0/gpmc_a27/pr1_mii1_rxd0/mcasp0_axr1/gpio1_27  , D10 gpmc_wen/spi1_cs2/timer6/qspi_d2/gpio2_4  , D11 gpmc_ad11/dss_data20/mmc1_dat3/mmc2_dat7/ehrpwm0_synco/pr1_mii0_txd3/spi3_cs0/gpio0_27/gpio5_23  , D13 gmii1_rxclk/uart2_txd/rgmii1_rclk/mmc0_dat6/mmc1_dat1/uart1_dsrn/mcasp0_fsx/gpio3_10/gpio0_9  , D14 gmii1_txclk/uart2_rxd/rgmii1_tclk/mmc0_dat7/mmc1_dat0/uart1_dcdn/mcasp0_aclkx/gpio3_9/gpio0_8  , D16 gmii1_col/rmii2_refclk/spi1_sclk/uart5_rxd/mcasp1_axr2/mmc2_dat3/mcasp0_axr2/gpio3_0/gpio0_0  , D17 dss_data15/gpmc_a19/eQEP1_strobe/mcasp0_ahclkx/mcasp0_axr3/pr1_mii0_rxdv/uart5_rtsn/gpio0_11/spi3_cs0  , D19 dss_data13/gpmc_a17/eQEP1B_in/mcasp0_fsr/mcasp0_axr3/pr1_mii0_rxer/uart4_rtsn/gpio0_9/spi3_d0  , E1 ddr_d2, E2 ddr_d1, E3 ddr_d0, E7 gpmc_a5/gmii2_txd0/rgmii2_td0/rmii2_txd0/gpmc_a21/pr1_mii1_txd0/eQEP1B_in/gpio1_21  , E8 gpmc_a6/gmii2_txclk/rgmii2_tclk/mmc2_dat4/gpmc_a22/pr1_mii_mt1_clk/eQEP1_index/gpio1_22  , E10 gpmc_oen_ren/spi0_cs2/timer7/qspi_d1/gpio2_3  , E11 gpmc_ad12/dss_data19/mmc1_dat4/mmc2_dat0/eQEP2A_in/pr1_mii0_txd2/pr1_pru0_gpi10/gpio1_12/mcasp0_aclkx/pr1_pru0_gpo10  , E16 gmii1_rxd2/uart3_txd/rgmii1_rd2/mmc0_dat4/mmc1_dat3/uart1_rin/mcasp0_axr1/gpio2_19/gpio0_11  , E19 dss_data7/gpmc_a7/pr1_edio_data_in7/eQEP2_strobe/pr1_edio_data_out7/pr1_pru0_gpo7/pr1_pru0_gpi7/gpio2_13  , F1 ddr_dqsn0, F2 ddr_dqs0, F3 ddr_d3, F4 ddr_dqm0, F6 gpmc_a7/gmii2_rxclk/rgmii2_rclk/mmc2_dat5/gpmc_a23/pr1_mii_mr1_clk/eQEP1_strobe/gpio1_23  , F7 gpmc_a8/gmii2_rxd3/rgmii2_rd3/mmc2_dat6/gpmc_a24/pr1_mii1_rxd3/mcasp0_aclkx/gpio1_24  , F10 gpmc_csn2/gpmc_be1n/mmc1_cmd/pr1_edio_data_in7/pr1_edio_data_out7/pr1_pru0_gpo9/pr1_pru0_gpi9/gpio1_31/gmii2_crs/rmii2_crs_dv  , F11 gpmc_ad10/dss_data21/mmc1_dat2/mmc2_dat6/ehrpwm2_tripzone_input/pr1_mii0_txen/spi3_d1/gpio0_26/gpio5_24  , F17 gmii1_rxd0/rmii1_rxd0/rgmii1_rd0/mcasp1_ahclkx/mcasp1_ahclkr/mcasp1_aclkr/mcasp0_axr3/gpio2_21  , G1 ddr_d7, G2 ddr_d6, G3 ddr_d5, G4 ddr_d4, G8 gpmc_a10/gmii2_rxd1/rgmii2_rd1/rmii2_rxd1/gpmc_a26/pr1_mii1_rxd1/mcasp0_axr0/gpio1_26  , H1 ddr_d8, H2 ddr_dqm1, J1 ddr_dqsn1, J2 ddr_dqs1, J3 ddr_d12, J4 ddr_d11, J5 ddr_d10, J6 ddr_d9, K1 ddr_ba0, K2 ddr_ba1, K3 ddr_ba2, K4 ddr_d15, K5 ddr_d14, K6 ddr_d13, K21 uart1_rxd/mmc1_sdwp/dcan1_tx/I2C1_SDA/pr1_uart0_rxd/pr1_pru0_gpi16/gpio0_14  , K22 uart1_ctsn/timer6/dcan0_tx/I2C2_SDA/spi1_cs0/pr1_uart0_cts_n/pr1_edc_latch0_in/gpio0_12  , L1 ddr_a1  , L2 ddr_a2  , L21 uart1_txd/mmc2_sdwp/dcan1_rx/I2C1_SCL/pr1_uart0_txd/pr1_pru0_gpi16/gpio0_15  , L22 uart1_rtsn/timer5/dcan0_rx/I2C2_SCL/spi1_cs1/pr1_uart0_rts_n/pr1_edc_latch1_in/gpio0_13  , M1 ddr_nck, M2 ddr_ck, M3 ddr_cke0, M4 ddr_csn1, M5 ddr_csn0, M6 ddr_a10  , N1 ddr_a0  , N2 ddr_rasn, N3 ddr_casn, N4 ddr_wen, N5 ddr_a13  , N6 ddr_cke1, P1 ddr_a4  , P2 ddr_a3  , R1 ddr_a9  , R2 ddr_a8  , R3 ddr_a7  , R4 ddr_a6  , R5 ddr_a5  , T1 ddr_resetn, T2 ddr_a15  , T3 ddr_a14  , T4 ddr_a12  , T5 ddr_a11  , T6 ddr_vref, U1 ddr_odt0, U2 ddr_odt1, V1 ddr_d20, V2 ddr_d19, V3 ddr_d18, V4 ddr_d17, V5 ddr_d16, V6 ddr_dqm2, W1 ddr_dqs2, W2 ddr_dqsn2, W4 ddr_d21, W5 ddr_d22, W6 ddr_d23, Y1 ddr_dqm3, Y2 ddr_d24, Y3 ddr_d25, Y4 ddr_d26
part B pins: AA7 Reserved / NC, AA9 Reserved / NC, AA10 Reserved / NC, AA12 ADC0_AIN0  , AA13 ADC0_AIN3  , AA15 ADC1_AIN4   , AA16 ADC1_AIN2  , AA18 cam0_data3 /mmc1_cmd /cam1_data11 /qspi_csn/gpio4_25  , AA19 cam0_data9/dss_data17/pr0_pru0_gpo16 /spi2_cs3/pr0_pru0_gpi16/EMU8/gpio4_6   , AA24 TDO  , AA25 TCK  , AB6 Reserved / NC, AB7 Reserved / NC, AB9 Reserved / NC, AB10 Reserved / NC, AB13 ADC0_AIN4  , AB15 ADC1_AIN3   , AB16 ADC1_AIN1   , AB18 cam0_data1 /cam1_data8/I2C1_SCL /pr0_pru1_gpo17/pr0_pru1_gpi17/ehrpwm3_synco/gpio5_20  , AB19 cam0_data8/dss_data18/pr0_pru0_gpo15/spi2_cs2 /pr0_pru0_gpi15 /EMU7/gpio4_5/I2C2_SCL  , AB20 cam1_data0/uart1_rxd/spi3_d0/I2C2_SDA/ehrpwm0_tripzone_input/gpio4_14  , AB24 I2C0_SDA/timer4/uart2_ctsn/eCAP2_in_PWM2_out/gpio3_5  , AB25 cam1_wen/xdma_event_intr8/pr1_edio_sof/cam0_data11/spi2_d1/cam1_data11/EMU11/gpio4_13/ehrpwm3B  , AC5 Reserved / NC, AC6 Reserved / NC, AC7 Reserved / NC, AC9 Reserved / NC, AC10 Reserved / NC, AC12 Reserved / NC, AC13 ADC0_AIN5  , AC16 ADC1_AIN0   , AC18 cam0_field/dss_data21/cam0_data10 /spi2_sclk/cam1_data10/EMU4/gpio4_2  , AC20 cam0_pclk/dss_data19/pr0_pru0_gpo14/spi2_cs0/pr0_pru0_gpi14/EMU6 /gpio4_4 /I2C2_SDA  , AC21 cam1_data1/uart1_txd /spi3_d1/I2C2_SCL/ehrpwm0_synci/gpio4_15  , AC23 cam1_vd/xdma_event_intr5/spi1_cs2/pr0_pru1_gpo2/spi2_cs2/pr0_pru1_gpi2/ehrpwm0B/gpio4_10  , AC24 cam1_data9/dss_data16/pr0_pru0_gpo17/spi2_cs3/pr0_pru0_gpi17/EMU9/gpio4_7/uart0_ctsn  , AC25 cam1_field/xdma_event_intr7/ext_hw_trigger/cam0_data10/spi2_cs1/cam1_data10/ehrpwm1B/gpio4_12/ehrpwm3A  , AD1 Reserved / NC, AD2 Reserved / NC, AD6 RTC_PMIC_EN  , AD7 Reserved / NC, AD10 Reserved / NC, AD11 Reserved / NC, AD13 ADC0_AIN6  , AD14 ADC0_VREFP  , AD15 ADC1_VREFN  , AD16 ADC1_AIN7  , AD17 cam0_wen /dss_data20/cam0_data11/spi2_d0/cam1_data11/EMU5/gpio4_3   , AD18 cam0_vd /dss_data22/pr1_edio_outvalid/spi2_d1/EMU11/EMU3 /gpio4_1   , AD19 cam0_data5 /mmc1_dat1 /qspi_d1/ehrpwm3B /gpio4_27   , AD20 cam0_data7/mmc1_dat3/qspi_d3 /ehrpwm1B/gpio4_29   , AD21 cam1_data2/uart1_ctsn/spi3_cs0/mmc2_clk/pr0_pru1_gpo10/pr0_pru1_gpi10/ehrpwm1_tripzone_input/gpio4_16   , AD22 cam1_data4/uart1_rin/uart2_rxd/mmc2_dat0 /pr0_pru1_gpo12/pr0_pru1_gpi12 /pr1_edc_latch1_in/gpio4_18 /uart0_dcdn  , AD23 cam1_data6/uart1_dcdn/uart2_ctsn/mmc2_dat2/pr0_pru1_gpo14/pr0_pru1_gpi14/pr1_edio_data_in0/gpio4_20  , AD24 cam1_data8/xdma_event_intr3/spi0_cs2/pr0_pru1_gpo0/spi2_d0/pr0_pru1_gpi0/EMU10/gpio4_8/uart0_rtsn  , AD25 cam1_hd/xdma_event_intr4/spi0_cs3/pr0_pru1_gpo1/spi2_cs0/pr0_pru1_gpi1/ehrpwm0A/gpio4_9  , AE2 RTC_KALDO_ENn  , AE3 RTC_WAKEUP  , AE4 RTC_XTALOUT  , AE5 RTC_XTALIN  , AE6 RTC_PORz  , AE9 Reserved / NC, AE11 Reserved / NC, AE12 Reserved / NC, AE13 ADC0_AIN7  , AE14 ADC0_VREFN  , AE15 ADC1_VREFP  , AE16 ADC1_AIN6   , AE17 cam0_hd /dss_data23/pr1_edio_sof/spi2_cs1 /EMU10 /EMU2 /gpio4_0  , AE18 cam0_data0/cam1_data9 /I2C1_SDA/pr0_pru1_gpo16 /pr0_pru1_gpi16/ehrpwm0_synco /gpio5_19   , AE19 cam0_data4 /mmc1_dat0/cam1_wen/qspi_d0/ehrpwm3A/gpio4_26  , AE20 cam0_data6 /mmc1_dat2 /qspi_d2 /ehrpwm1A/gpio4_28  , AE21 cam1_pclk/xdma_event_intr6/spi1_cs3/pr0_pru1_gpo3/spi2_sclk/pr0_pru1_gpi3/ehrpwm1A/gpio4_11  , AE22 cam1_data3/uart1_rtsn /spi3_sclk/mmc2_cmd /pr0_pru1_gpo11 /pr0_pru1_gpi11/pr1_edc_latch0_in /gpio4_17  , AE23 cam1_data5 /uart1_dsrn /uart2_txd /mmc2_dat1 /pr0_pru1_gpo13/pr0_pru1_gpi13 /pr1_edio_latch_in /gpio4_19  , AE24 cam1_data7/uart1_dtrn/uart2_rtsn/mmc2_dat3/pr0_pru1_gpo15/pr0_pru1_gpi15/pr1_edio_data_in1/gpio4_21  , B1 mmc0_dat3/gpmc_a20/uart4_ctsn/timer5/uart1_dcdn/pr0_pru0_gpo8/pr0_pru0_gpi8/gpio2_26  , B2 mmc0_dat2/gpmc_a21/uart4_rtsn/timer6/uart1_dsrn/pr0_pru0_gpo9/pr0_pru0_gpi9/gpio2_27  , B25 OSC0_OUT  , C1 mmc0_dat0/gpmc_a23/uart5_rtsn/uart3_txd/uart1_rin/pr0_pru0_gpo11/pr0_pru0_gpi11/gpio2_29  , C2 mmc0_dat1/gpmc_a22/uart5_ctsn/uart3_rxd/uart1_dtrn/pr0_pru0_gpo10/pr0_pru0_gpi10/gpio2_28  , C24 xdma_event_intr1/spi0_cs2/tclkin/clkout2/timer7/pr1_pru0_gpi16/EMU3/gpio0_20/pr1_mdio_mdclk/gpio5_29  , C25 OSC0_IN  , D1 mmc0_clk/gpmc_a24/uart3_ctsn/uart2_rxd/dcan1_tx/pr0_pru0_gpo12/pr0_pru0_gpi12/gpio2_30  , D2 mmc0_cmd/gpmc_a25/uart3_rtsn/uart2_txd/dcan1_rx/pr0_pru0_gpo13/pr0_pru0_gpi13/gpio2_31  , D24 xdma_event_intr0/ext_hw_trigger/timer4/clkout1/spi1_cs1/pr1_pru0_gpi16/EMU2/gpio0_19/pr1_mdio_data/gpio5_28  , D25 pr1_mii0_col/gpio5_8  , E24 pr1_mii1_rxlink/gpio5_13  , E25 I2C1_SDA/pr1_mii0_rxlink/gpio5_12  , F23 pr1_mii1_crs/gpio5_11  , F24 pr1_mii1_col/gpio5_9  , F25 USB1_DRVVBUS/gpio3_13/gpio0_25  , G20 I2C1_SCL/pr1_mii0_crs/gpio5_10  , G21 USB0_DRVVBUS/gpio0_18/gpio5_27  , G22 nRESETIN_OUT  , G24 eCAP0_in_PWM0_out/uart3_txd/spi1_cs1/pr1_ecap0_ecap_capin_apwm_o/spi1_sclk/mmc0_sdwp/xdma_event_intr2/gpio0_7/ehrpwm2B/timer1  , G25 nNMI  , H19 Reserved / NC, H20 clkreq/gpio0_24  , H21 Reserved / NC, H22 uart3_ctsn/spi4_cs1/pr0_pru1_gpo18/pr0_pru1_gpi18/ehrpwm5A/gpio5_0  , H23 mcasp0_axr0/ehrpwm0_tripzone_input/spi1_cs3/spi1_d1/mmc2_sdcd/pr0_pru0_gpo2/pr0_pru0_gpi2/gpio3_16  , H24 uart3_txd/pr0_pru0_gpo19/pr0_pru0_gpi19/ehrpwm4B/gpio5_3  , H25 uart3_rxd/pr0_pru0_gpo18/pr0_pru0_gpi18/ehrpwm4A/gpio5_2  , J24 uart0_txd/spi1_cs1/dcan0_rx/I2C2_SCL/eCAP1_in_PWM1_out/pr0_pru1_gpo5/pr0_pru1_gpi5/gpio1_11  , J25 uart0_rtsn/uart4_txd/dcan1_rx/I2C1_SCL/spi1_d1/spi1_cs0/pr1_edc_sync1_out/gpio1_9  , K23 mcasp0_fsr/eQEP0B_in/mcasp0_axr3/mcasp1_fsx/EMU2/pr0_pru0_gpo5/pr0_pru0_gpi5/gpio3_19/gpio0_19  , K24 uart3_rtsn/hdq_sio/pr0_pru1_gpo19/pr0_pru1_gpi19/ehrpwm5B/gpio5_1  , K25 uart0_rxd/spi1_cs0/dcan0_tx/I2C2_SDA/eCAP2_in_PWM2_out/pr0_pru1_gpo4/pr0_pru1_gpi4/gpio1_10  , L23 mcasp0_aclkr/eQEP0A_in/mcasp0_axr2/mcasp1_aclkx/mmc0_sdwp/pr0_pru0_gpo4/pr0_pru0_gpi4/gpio3_18/gpio0_18  , L24 mcasp0_ahclkx/eQEP0_strobe/mcasp0_axr3/mcasp1_axr1/EMU4/pr0_pru0_gpo7/pr0_pru0_gpi7/gpio3_21/gpio0_3  , L25 uart0_ctsn/uart4_rxd/dcan1_tx/I2C1_SDA/spi1_d0/timer7/pr1_edc_sync0_out/gpio1_8  , M24 mcasp0_ahclkr/ehrpwm0_synci/mcasp0_axr2/spi1_cs0/eCAP2_in_PWM2_out/pr0_pru0_gpo3/pr0_pru0_gpi3/gpio3_17  , M25 mcasp0_axr1/eQEP0_index/mcasp1_axr0/EMU3/pr0_pru0_gpo6/pr0_pru0_gpi6/gpio3_20/gpio0_2  , N20 spi2_sclk/I2C1_SCL/ehrpwm4_tripzone_input/gpio3_24/gpio0_22  , N22 mcasp0_fsx/ehrpwm0B/spi1_cs2/spi1_d0/mmc1_sdcd/pr0_pru0_gpo1/pr0_pru0_gpi1/gpio3_15  , N23 EMU0/gpio3_7  , N24 mcasp0_aclkx/ehrpwm0A/spi0_cs3/spi1_sclk/mmc0_sdcd/pr0_pru0_gpo0/pr0_pru0_gpi0/gpio3_14  , N25 spi4_cs0/ehrpwm3_tripzone_input/gpio5_7  , P20 spi2_d1/ehrpwm1_tripzone_input/gpio3_23/gpio0_21  , P22 spi2_d0/ehrpwm5_tripzone_input/gpio3_22/gpio0_20  , P23 spi0_sclk/uart2_rxd/I2C2_SDA/ehrpwm0A/pr1_uart0_cts_n/pr0_uart0_cts_n/EMU2/gpio0_2  , P24 spi4_d1/ehrpwm0_tripzone_input/gpio5_6  , P25 spi4_sclk/ehrpwm0_synci/gpio5_4  , R24 spi4_d0/ehrpwm3_synci/gpio5_5  , R25 spi0_cs1/uart3_rxd/eCAP1_in_PWM1_out/mmc0_pow/xdma_event_intr2/mmc0_sdcd/EMU4/gpio0_6/ehrpwm2A/timer0  , T20 spi0_cs0/mmc2_sdwp/I2C1_SCL/ehrpwm0_synci/pr1_uart0_txd/pr0_uart0_txd/pr1_edio_data_out1/gpio0_5/ehrpwm1B  , T21 spi0_d1/mmc1_sdwp/I2C1_SDA/ehrpwm0_tripzone_input/pr1_uart0_rxd/pr0_uart0_rxd/pr1_edio_data_out0/gpio0_4/ehrpwm1A  , T22 spi0_d0/uart2_txd/I2C2_SCL/ehrpwm0B/pr1_uart0_rts_n/pr0_uart0_rts_n/EMU3/gpio0_3  , T23 spi2_cs0/I2C1_SDA/ehrpwm2_tripzone_input/gpio3_25/gpio0_23  , T24 EMU1/gpio3_8  , T25 USB1_VBUS  , U22 USB1_CE  , U23 USB0_VBUS  , U24 USB0_ID  , U25 USB1_ID  , V24 USB1_DP  , V25 USB1_DM  , W10 Reserved / NC, W22 USB0_CE  , W24 USB0_DM  , W25 USB0_DP  , Y6 Reserved / NC, Y7 Reserved / NC, Y10 Reserved / NC, Y12 ADC0_AIN1  , Y13 ADC0_AIN2  , Y15 ADC1_AIN5  , Y18 cam0_data2/mmc1_clk /cam1_data10 /qspi_clk /gpio4_24  , Y20 TDI  , Y22 I2C0_SCL/timer7/uart2_rtsn/eCAP1_in_PWM1_out/gpio3_6  , Y23 porz  , Y24 TMS  , Y25 nTRST  
part C pins: A1 VSS, A25 VSS, AA23 VSS, AB12 VDDA_ADC0  , AC15 VSSA_ADC  , AD3 CAP_VDD_RTC  , AD4 VSS_RTC  , AD5 VDDS_RTC  , AD8 VDDS  , AD9 VDD_CORE  , AD12 VDDS  , AE1 VSS, AE7 VSS, AE8 VSS, AE10 VSS, AE25 VSS, B24 VSS_OSC  , C23 VDDS_OSC  , D6 CAP_VDDS1P8V_IOLDO  , D20 vdd_mpu_mon  , E13 CAP_VDD_SRAM_CORE  , E14 CAP_VDD_SRAM_MPU  , E17 VDDS_PLL_MPU  , E23 VDDS_CLKOUT  , F8 VDDS3P3V_IOLDO  , F13 VDDS_SRAM_CORE_BG  , F14 VDDS_SRAM_MPU_BB  , F16 VDDSHV7, F19 CAP_VBB_MPU  , F20 VDDS  , F22 VDDSHV5, G5 VDDS_PLL_DDR  , G6 VDDS  , G10 VDDSHV10, G11 VDDSHV9, G13 VDDSHV8, G14 VDDSHV8, G16 VDDSHV6, G17 VDDSHV6, H8 VDDSHV11, H9 VDDSHV11, H10 VDDSHV10, H11 VDDSHV9, H12 VDDS  , H13 VDD_MPU  , H14 VDD_MPU  , H15 VSS, H16 VDD_MPU  , H17 VDDSHV6, H18 VSS, J7 VDDSHV1, J8 VDDSHV1, J9 VSS, J10 VDD_CORE  , J11 VDD_CORE  , J12 VSS, J13 VDD_MPU  , J14 VDD_MPU  , J15 VSS, J16 VDD_MPU  , J17 VSS, J18 VDDSHV3, K7 VDDS_DDR  , K8 VDDS_DDR  , K9 VSS, K11 VSS, K12 VSS, K14 VSS, K15 VSS, K17 VDDSHV3, K18 VDDSHV3, K19 VDD_MPU  , K20 VDD_MPU  , L8 VSS, L9 VSS, L11 VSS, L12 VDD_CORE  , L14 VDD_CORE  , L15 VSS, L17 VSS, L18 VSS, L19 VDD_MPU  , L20 VDD_MPU  , M7 VDDS_DDR  , M8 VDDS_DDR  , M9 VDD_CORE  , M10 VSS, M11 VSS, M12 VDD_CORE  , M13 VSS, M14 VDD_CORE  , M15 VSS, M16 VSS, M17 VDD_MPU  , M18 VDD_MPU  , N7 VDDS_DDR  , N8 VDDS_DDR  , N9 VDD_CORE  , N10 VSS, N11 VSS, N12 VSS, N13 VSS, N14 VSS, N15 VSS, N16 VDD_CORE  , N17 VDD_CORE  , N18 VDDSHV3, N19 VDDSHV3, N21 VDDS_PLL_CORE_LCD  , P8 VSS, P9 VSS, P10 VSS, P11 VSS, P12 VSS, P13 VSS, P14 VSS, P15 VSS, P16 VDD_CORE  , P17 VDD_CORE  , P18 VDDSHV3, P19 VDDS  , P21 VPP  , R6 VDDS_DDR  , R7 VDDS_DDR  , R8 VDDS_DDR  , R9 VDD_CORE  , R11 VDD_CORE  , R12 VSS, R14 VDD_CORE  , R15 VSS, R17 VSS, R18 VSS, T7 VDDS_DDR  , T8 VDDS_DDR  , T9 VDD_CORE  , T11 VDD_CORE  , T12 VSS, T14 VDD_CORE  , T15 VSS, T17 VSS, T18 VDD_CORE  , T19 VDD_CORE  , U8 VSS, U9 VSS, U10 VSS, U11 VSS, U12 VSS, U13 VSS, U14 VSS, U15 VDD_CORE  , U16 VSS, U17 VSS, U18 VSS, U19 VSS, U20 VDDA3P3V_USB1  , U21 VDDA1P8V_USB1  , V7 VDDS_DDR  , V8 VDDS_DDR  , V9 VSS, V10 VSS, V11 VSS, V12 VSS, V13 VSS, V14 VSS, V15 VDD_CORE  , V16 VDDSHV2, V17 VDDSHV2, V18 VSS, W12 VDD_CORE  , W13 VDD_CORE  , W15 VDDS  , W16 VDDSHV2, W18 VDDSHV3, W20 VDDA3P3V_USB0  , W21 VDDA1P8V_USB0  , W23 VSSA_USB  , Y16 VDDA_ADC1  , Y19 VDDS  

## IC AND w/ Power
designator U?
part A pins: 1 A, 2 B, 4 Y
part B pins: 3 GND, 5 V+

## IC AOZ1282CI
designator U?
Step-down Regulator, Alpha & Omega AOZ1282CI
pins: 1 BST, 2 GND, 3 FB, 4 EN, 5 VIN, 6 LX

## IC AP73xx
designator U?
LDO Fixed Output, Diodes Inc AP73xx
pins: 1 Vin, 2 Vout, 3 GND

## IC AP1117x
designator U?
LDO Fixed Output, Diodes Inc AP1117x
pins: 1 GND, 2 Vin, 3 Vout

## IC AP1501A
designator U?
Step-down Regulator, Diodes Inc AP1501
pins: 0 PAD, 1 Vin, 2 FB, 3 GND, 4 Vout, 5 SD

## IC AP2125x
designator U?
LDO Fixed Output, Diodes AP2125x
pins: 1 GND, 2 Vout, 3 Vin

## IC AP2127
designator U?
LDO Adjustable Output, Diodes AP2127
pins: 1 Vin, 2 GND, 3 EN, 4 ADJ, 5 Vout

## IC AP2171W
designator U?
1A Single Channel Current-Limited Power Switch, Diodes Inc. AP2171W
pins: 1 OUT, 2 GND, 3 FLG, 4 EN, 5 IN

## IC AP3417C
designator U?
Step-down Regulator, Diodes Inc AP3417C
pins: 1 EN, 2 GND, 3 LX, 4 Vin, 5 FB

## IC AP3418
designator U?
Step-down Regulator, Diodes Inc AP3418
pins: 1 EN, 2 GND, 3 SW, 4 VIN, 5 FB

## IC AP5725W
designator U?
LED Driver, 1.2MHz Step-Up Converter, Diodes Inc. AP5725W
pins: 1 SW, 2 GND, 3 FB, 4 EN, 5 OVP, 6 Vin

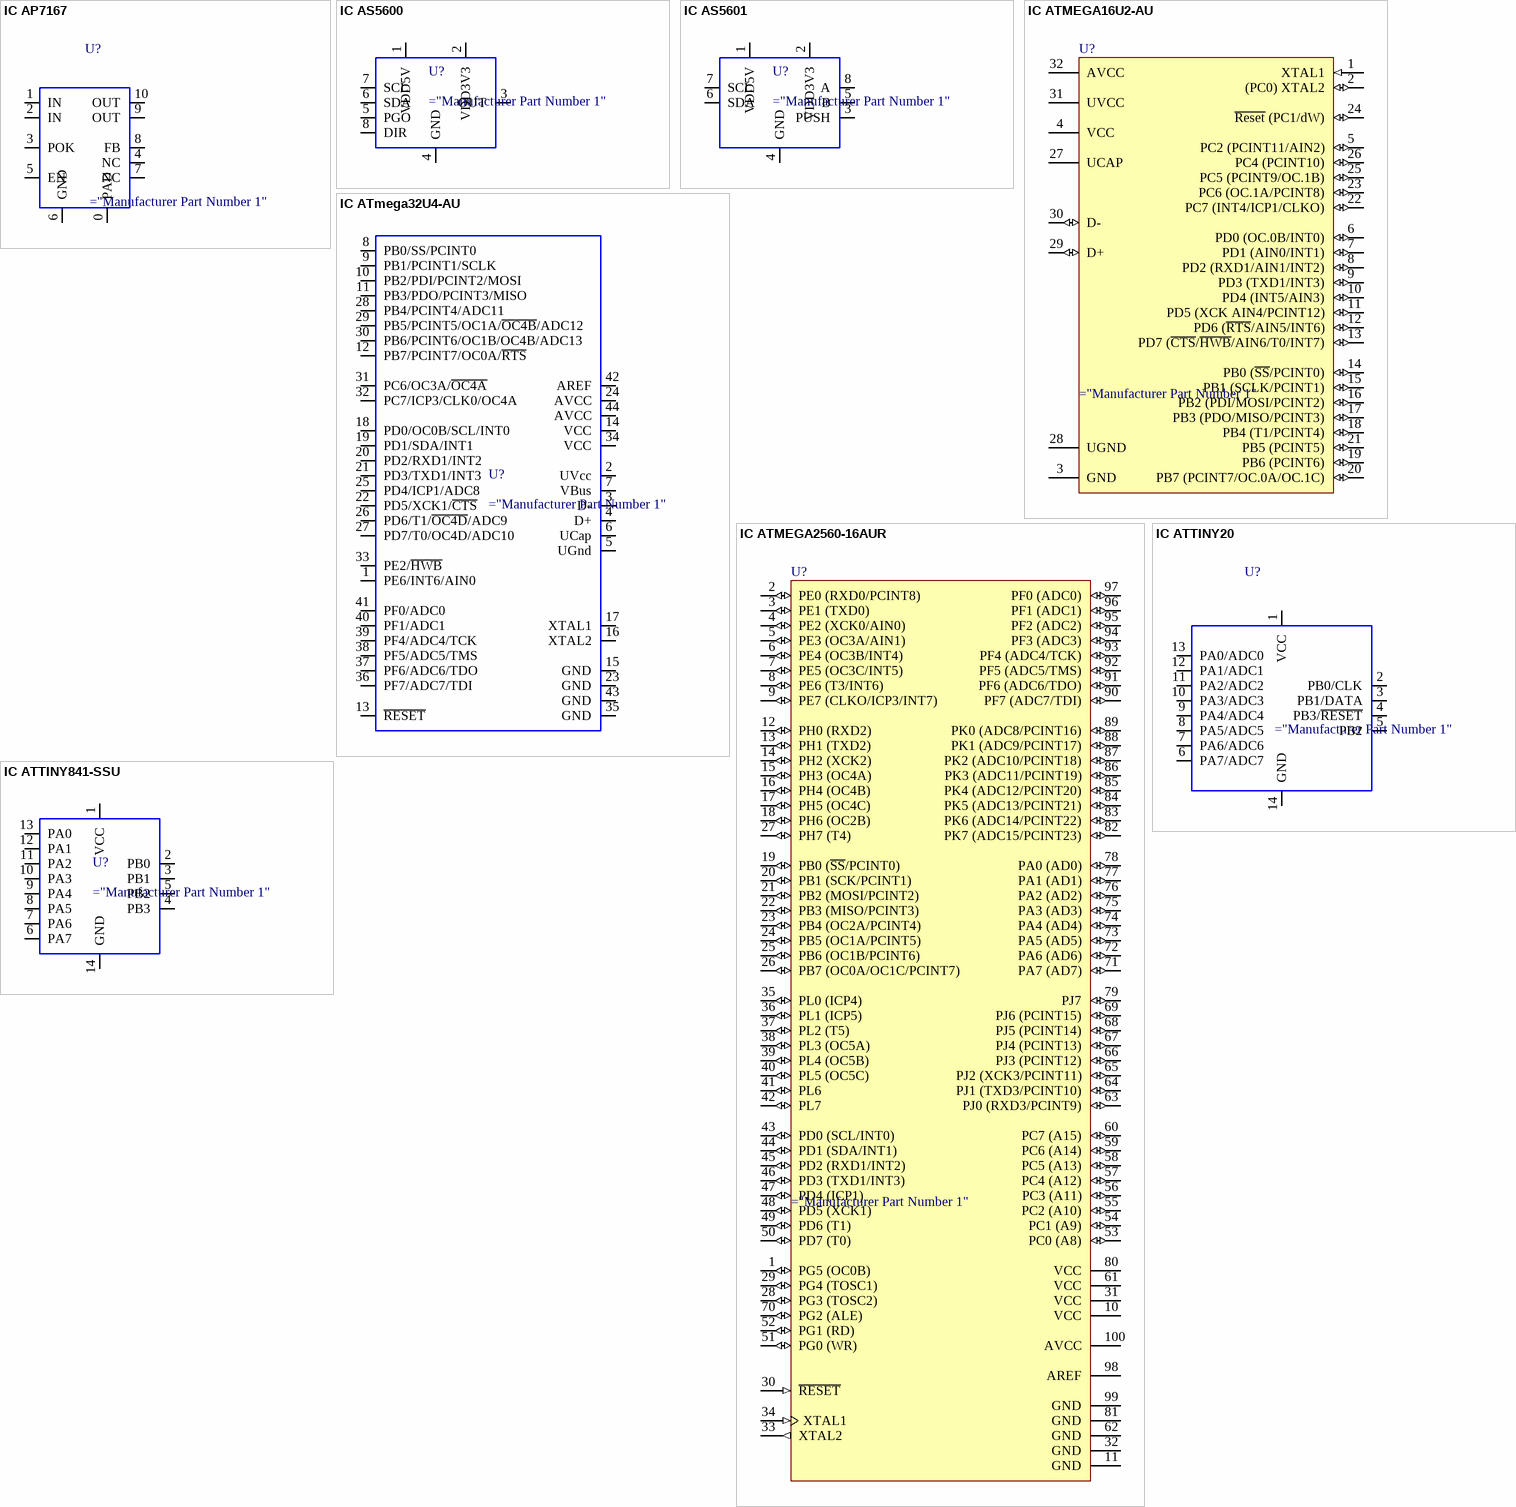
[diagram p12: symbols IC AP7167 to IC ATTINY841-SSU]

## IC AP7167
designator U?
LDO, Diodes Inc. AP7167
pins: 0 PAD, 1 IN, 2 IN, 3 POK, 4 NC, 5 EN, 6 GND, 7 NC, 8 FB, 9 OUT, 10 OUT

## IC AS5600
designator U?
Hall-Effect Rotary Sensor, AMS AS5600
pins: 1 VDD5V, 2 VDD3V3, 3 OUT, 4 GND, 5 PGO, 6 SDA, 7 SCL, 8 DIR

## IC AS5601
designator U?
Hall-Effect Rotary Sensor, AMS AS5601
pins: 1 VDD5V, 2 VDD3V3, 3 PUSH, 4 GND, 5 B, 6 SDA, 7 SCL, 8 A

## IC ATMEGA16U2-AU
designator U?
8-bit AVR Microcontroller, 2.7-5.5V, 16KB Flash, 512 Bytes EEPROM, 512 Bytes SRAM, 32-pin TQFP, Industrial Grade (-40°C to 85°C)
pins: 1 XTAL1 (in), 2 (PC0) XTAL2 (io), 3 GND (power), 4 VCC (power), 5 PC2 (PCINT11/AIN2) (io), 6 PD0 (OC.0B/INT0) (io), 7 PD1 (AIN0/INT1) (io), 8 PD2 (RXD1/AIN1/INT2) (io), 9 PD3 (TXD1/INT3) (io), 10 PD4 (INT5/AIN3) (io), 11 PD5 (XCK AIN4/PCINT12) (io), 12 PD6 (~{RTS}/AIN5/INT6) (io), 13 PD7 (~{CTS}/~{HWB}/AIN6/T0/INT7) (io), 14 PB0 (~{SS}/PCINT0) (io), 15 PB1 (SCLK/PCINT1) (io), 16 PB2 (PDI/MOSI/PCINT2) (io), 17 PB3 (PDO/MISO/PCINT3) (io), 18 PB4 (T1/PCINT4) (io), 19 PB6 (PCINT6) (io), 20 PB7 (PCINT7/OC.0A/OC.1C) (io), 21 PB5 (PCINT5) (io), 22 PC7 (INT4/ICP1/CLKO) (io), 23 PC6 (OC.1A/PCINT8) (io), 24 ~{Reset} (PC1/dW) (io), 25 PC5 (PCINT9/OC.1B) (io), 26 PC4 (PCINT10) (io), 27 UCAP (power), 28 UGND (power), 29 D+ (io), 30 D- (io), 31 UVCC (power), 32 AVCC (power)

## IC ATmega32U4-AU
designator U?
MCU 8-Bit AVR, Atmel ATmega32U4
pins: 1 PE6/INT6/AIN0, 2 UVcc, 3 D-, 4 D+, 5 UGnd, 6 UCap, 7 VBus, 8 PB0/SS/PCINT0, 9 PB1/PCINT1/SCLK, 10 PB2/PDI/PCINT2/MOSI, 11 PB3/PDO/PCINT3/MISO, 12 PB7/PCINT7/OC0A/~{RTS}, 13 ~{RESET}, 14 VCC, 15 GND, 16 XTAL2, 17 XTAL1, 18 PD0/OC0B/SCL/INT0, 19 PD1/SDA/INT1, 20 PD2/RXD1/INT2, 21 PD3/TXD1/INT3, 22 PD5/XCK1/~{CTS}, 23 GND, 24 AVCC, 25 PD4/ICP1/ADC8, 26 PD6/T1/~{OC4D}/ADC9, 27 PD7/T0/OC4D/ADC10, 28 PB4/PCINT4/ADC11, 29 PB5/PCINT5/OC1A/~{OC4B}/ADC12, 30 PB6/PCINT6/OC1B/OC4B/ADC13, 31 PC6/OC3A/~{OC4A}, 32 PC7/ICP3/CLK0/OC4A, 33 PE2/~{HWB}, 34 VCC, 35 GND, 36 PF7/ADC7/TDI, 37 PF6/ADC6/TDO, 38 PF5/ADC5/TMS, 39 PF4/ADC4/TCK, 40 PF1/ADC1, 41 PF0/ADC0, 42 AREF, 43 GND, 44 AVCC

## IC ATMEGA2560-16AUR
designator U?
8-bit AVR Microcontroller, 4.5-5.5V, 16MHz, 256KB Flash, 4KB EEPROM, 8KB SRAM, 86 GPIO pins, 100-pin TQFP, Industrial Grade (-40°C to 85°C), Pb-Free, Reel
pins: 1 PG5 (OC0B) (io), 2 PE0 (RXD0/PCINT8) (io), 3 PE1 (TXD0) (io), 4 PE2 (XCK0/AIN0) (io), 5 PE3 (OC3A/AIN1) (io), 6 PE4 (OC3B/INT4) (io), 7 PE5 (OC3C/INT5) (io), 8 PE6 (T3/INT6) (io), 9 PE7 (CLKO/ICP3/INT7) (io), 10 VCC (power), 11 GND (power), 12 PH0 (RXD2) (io), 13 PH1 (TXD2) (io), 14 PH2 (XCK2) (io), 15 PH3 (OC4A) (io), 16 PH4 (OC4B) (io), 17 PH5 (OC4C) (io), 18 PH6 (OC2B) (io), 19 PB0 (~{SS}/PCINT0) (io), 20 PB1 (SCK/PCINT1) (io), 21 PB2 (MOSI/PCINT2) (io), 22 PB3 (MISO/PCINT3) (io), 23 PB4 (OC2A/PCINT4) (io), 24 PB5 (OC1A/PCINT5) (io), 25 PB6 (OC1B/PCINT6) (io), 26 PB7 (OC0A/OC1C/PCINT7) (io), 27 PH7 (T4) (io), 28 PG3 (TOSC2) (io), 29 PG4 (TOSC1) (io), 30 ~{RESET} (in), 31 VCC (power), 32 GND (power), 33 XTAL2 (out), 34 XTAL1 (in), 35 PL0 (ICP4) (io), 36 PL1 (ICP5) (io), 37 PL2 (T5) (io), 38 PL3 (OC5A) (io), 39 PL4 (OC5B) (io), 40 PL5 (OC5C) (io), 41 PL6 (io), 42 PL7 (io), 43 PD0 (SCL/INT0) (io), 44 PD1 (SDA/INT1) (io), 45 PD2 (RXD1/INT2) (io), 46 PD3 (TXD1/INT3) (io), 47 PD4 (ICP1) (io), 48 PD5 (XCK1) (io), 49 PD6 (T1) (io), 50 PD7 (T0) (io), 51 PG0 (WR) (io), 52 PG1 (RD) (io), 53 PC0 (A8) (io), 54 PC1 (A9) (io), 55 PC2 (A10) (io), 56 PC3 (A11) (io), 57 PC4 (A12) (io), 58 PC5 (A13) (io), 59 PC6 (A14) (io), 60 PC7 (A15) (io), 61 VCC (power), 62 GND (power), 63 PJ0 (RXD3/PCINT9) (io), 64 PJ1 (TXD3/PCINT10) (io), 65 PJ2 (XCK3/PCINT11) (io), 66 PJ3 (PCINT12) (io), 67 PJ4 (PCINT13) (io), 68 PJ5 (PCINT14) (io), 69 PJ6 (PCINT15) (io), 70 PG2 (ALE) (io), 71 PA7 (AD7) (io), 72 PA6 (AD6) (io), 73 PA5 (AD5) (io), 74 PA4 (AD4) (io), 75 PA3 (AD3) (io), 76 PA2 (AD2) (io), 77 PA1 (AD1) (io), 78 PA0 (AD0) (io), 79 PJ7 (io), 80 VCC (power), 81 GND (power), 82 PK7 (ADC15/PCINT23) (io), 83 PK6 (ADC14/PCINT22) (io), 84 PK5 (ADC13/PCINT21) (io), 85 PK4 (ADC12/PCINT20) (io), 86 PK3 (ADC11/PCINT19) (io), 87 PK2 (ADC10/PCINT18) (io), 88 PK1 (ADC9/PCINT17) (io), 89 PK0 (ADC8/PCINT16) (io), 90 PF7 (ADC7/TDI) (io), 91 PF6 (ADC6/TDO) (io), 92 PF5 (ADC5/TMS) (io), 93 PF4 (ADC4/TCK) (io), 94 PF3 (ADC3) (io), 95 PF2 (ADC2) (io), 96 PF1 (ADC1) (io), 97 PF0 (ADC0) (io), 98 AREF (power), 99 GND (power), 100 AVCC (power)

## IC ATTINY20
designator U?
MCU 8-Bit AVR, Atmel ATtiny20
pins: 1 VCC, 2 PB0/CLK, 3 PB1/DATA, 4 PB3/~{RESET}, 5 PB2, 6 PA7/ADC7, 7 PA6/ADC6, 8 PA5/ADC5, 9 PA4/ADC4, 10 PA3/ADC3, 11 PA2/ADC2, 12 PA1/ADC1, 13 PA0/ADC0, 14 GND

## IC ATTINY841-SSU
designator U?
MCU 8-bit AVR, Atmel ATtiny841-SSU
pins: 1 VCC, 2 PB0, 3 PB1, 4 PB3, 5 PB2, 6 PA7, 7 PA6, 8 PA5, 9 PA4, 10 PA3, 11 PA2, 12 PA1, 13 PA0, 14 GND

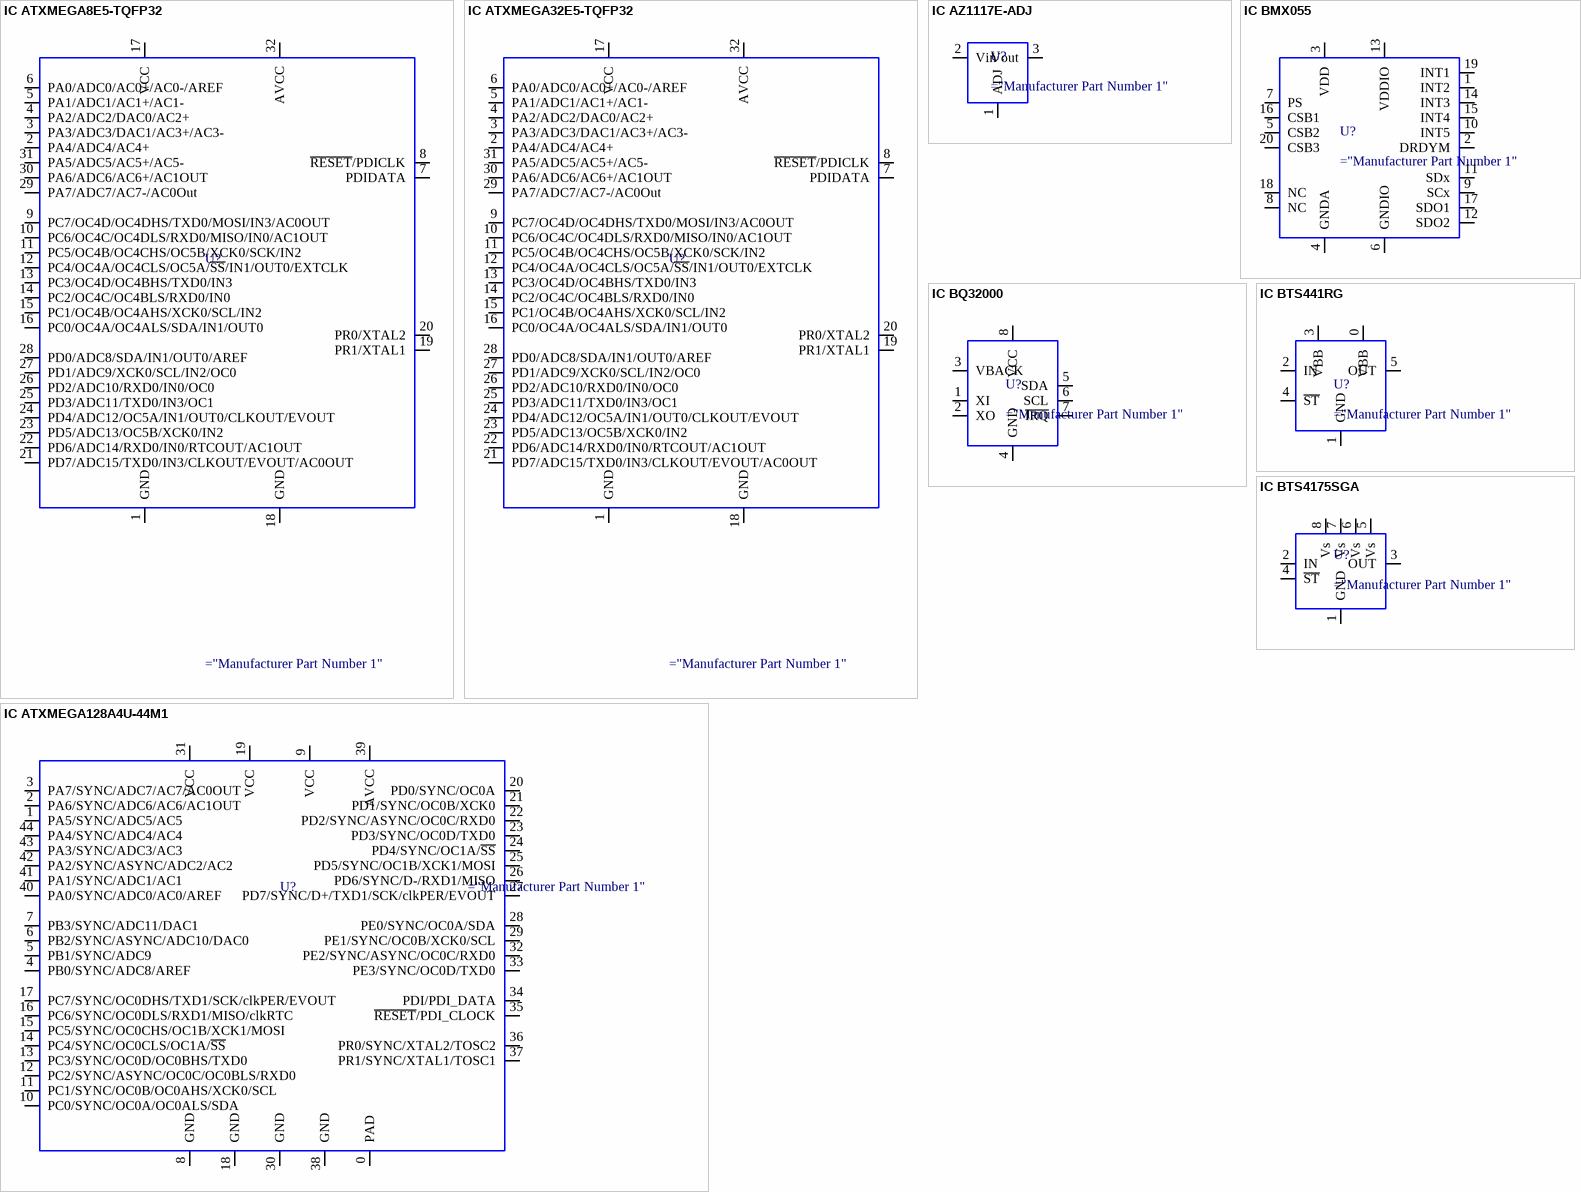
[diagram p13: symbols IC ATXMEGA8E5-TQFP32 to IC BTS4175SGA]

## IC ATXMEGA8E5-TQFP32
designator U?
MCU 8/16-bit XmegaAVR, Atmel ATxmega8E5
pins: 1 GND, 2 PA4/ADC4/AC4+, 3 PA3/ADC3/DAC1/AC3+/AC3-, 4 PA2/ADC2/DAC0/AC2+, 5 PA1/ADC1/AC1+/AC1-, 6 PA0/ADC0/AC0+/AC0-/AREF, 7 PDIDATA, 8 ~{RESET}/PDICLK, 9 PC7/OC4D/OC4DHS/TXD0/MOSI/IN3/AC0OUT, 10 PC6/OC4C/OC4DLS/RXD0/MISO/IN0/AC1OUT, 11 PC5/OC4B/OC4CHS/OC5B/XCK0/SCK/IN2, 12 PC4/OC4A/OC4CLS/OC5A/~{SS}/IN1/OUT0/EXTCLK, 13 PC3/OC4D/OC4BHS/TXD0/IN3, 14 PC2/OC4C/OC4BLS/RXD0/IN0, 15 PC1/OC4B/OC4AHS/XCK0/SCL/IN2, 16 PC0/OC4A/OC4ALS/SDA/IN1/OUT0, 17 VCC, 18 GND, 19 PR1/XTAL1, 20 PR0/XTAL2, 21 PD7/ADC15/TXD0/IN3/CLKOUT/EVOUT/AC0OUT, 22 PD6/ADC14/RXD0/IN0/RTCOUT/AC1OUT, 23 PD5/ADC13/OC5B/XCK0/IN2, 24 PD4/ADC12/OC5A/IN1/OUT0/CLKOUT/EVOUT, 25 PD3/ADC11/TXD0/IN3/OC1, 26 PD2/ADC10/RXD0/IN0/OC0, 27 PD1/ADC9/XCK0/SCL/IN2/OC0, 28 PD0/ADC8/SDA/IN1/OUT0/AREF, 29 PA7/ADC7/AC7-/AC0Out, 30 PA6/ADC6/AC6+/AC1OUT, 31 PA5/ADC5/AC5+/AC5-, 32 AVCC

## IC ATXMEGA32E5-TQFP32
designator U?
MCU 8/16-bit XmegaAVR, Atmel ATxmega32E5
pins: 1 GND, 2 PA4/ADC4/AC4+, 3 PA3/ADC3/DAC1/AC3+/AC3-, 4 PA2/ADC2/DAC0/AC2+, 5 PA1/ADC1/AC1+/AC1-, 6 PA0/ADC0/AC0+/AC0-/AREF, 7 PDIDATA, 8 ~{RESET}/PDICLK, 9 PC7/OC4D/OC4DHS/TXD0/MOSI/IN3/AC0OUT, 10 PC6/OC4C/OC4DLS/RXD0/MISO/IN0/AC1OUT, 11 PC5/OC4B/OC4CHS/OC5B/XCK0/SCK/IN2, 12 PC4/OC4A/OC4CLS/OC5A/~{SS}/IN1/OUT0/EXTCLK, 13 PC3/OC4D/OC4BHS/TXD0/IN3, 14 PC2/OC4C/OC4BLS/RXD0/IN0, 15 PC1/OC4B/OC4AHS/XCK0/SCL/IN2, 16 PC0/OC4A/OC4ALS/SDA/IN1/OUT0, 17 VCC, 18 GND, 19 PR1/XTAL1, 20 PR0/XTAL2, 21 PD7/ADC15/TXD0/IN3/CLKOUT/EVOUT/AC0OUT, 22 PD6/ADC14/RXD0/IN0/RTCOUT/AC1OUT, 23 PD5/ADC13/OC5B/XCK0/IN2, 24 PD4/ADC12/OC5A/IN1/OUT0/CLKOUT/EVOUT, 25 PD3/ADC11/TXD0/IN3/OC1, 26 PD2/ADC10/RXD0/IN0/OC0, 27 PD1/ADC9/XCK0/SCL/IN2/OC0, 28 PD0/ADC8/SDA/IN1/OUT0/AREF, 29 PA7/ADC7/AC7-/AC0Out, 30 PA6/ADC6/AC6+/AC1OUT, 31 PA5/ADC5/AC5+/AC5-, 32 AVCC

## IC ATXMEGA128A4U-44M1
designator U?
MCU 8/16-bit XmegaAVR, Atmel ATxmega128A4U
pins: 0 PAD, 1 PA5/SYNC/ADC5/AC5, 2 PA6/SYNC/ADC6/AC6/AC1OUT, 3 PA7/SYNC/ADC7/AC7/AC0OUT, 4 PB0/SYNC/ADC8/AREF, 5 PB1/SYNC/ADC9, 6 PB2/SYNC/ASYNC/ADC10/DAC0, 7 PB3/SYNC/ADC11/DAC1, 8 GND, 9 VCC, 10 PC0/SYNC/OC0A/OC0ALS/SDA, 11 PC1/SYNC/OC0B/OC0AHS/XCK0/SCL, 12 PC2/SYNC/ASYNC/OC0C/OC0BLS/RXD0, 13 PC3/SYNC/OC0D/OC0BHS/TXD0, 14 PC4/SYNC/OC0CLS/OC1A/~{SS}, 15 PC5/SYNC/OC0CHS/OC1B/XCK1/MOSI, 16 PC6/SYNC/OC0DLS/RXD1/MISO/clkRTC, 17 PC7/SYNC/OC0DHS/TXD1/SCK/clkPER/EVOUT, 18 GND, 19 VCC, 20 PD0/SYNC/OC0A, 21 PD1/SYNC/OC0B/XCK0, 22 PD2/SYNC/ASYNC/OC0C/RXD0, 23 PD3/SYNC/OC0D/TXD0, 24 PD4/SYNC/OC1A/~{SS}, 25 PD5/SYNC/OC1B/XCK1/MOSI, 26 PD6/SYNC/D-/RXD1/MISO, 27 PD7/SYNC/D+/TXD1/SCK/clkPER/EVOUT, 28 PE0/SYNC/OC0A/SDA, 29 PE1/SYNC/OC0B/XCK0/SCL, 30 GND, 31 VCC, 32 PE2/SYNC/ASYNC/OC0C/RXD0, 33 PE3/SYNC/OC0D/TXD0, 34 PDI/PDI_DATA, 35 ~{RESET}/PDI_CLOCK, 36 PR0/SYNC/XTAL2/TOSC2, 37 PR1/SYNC/XTAL1/TOSC1, 38 GND, 39 AVCC, 40 PA0/SYNC/ADC0/AC0/AREF, 41 PA1/SYNC/ADC1/AC1, 42 PA2/SYNC/ASYNC/ADC2/AC2, 43 PA3/SYNC/ADC3/AC3, 44 PA4/SYNC/ADC4/AC4
2 alternate drawings of the same symbol